# Altium integrated library Actel SX.IntLib: 224 symbols (part 13 of 17)
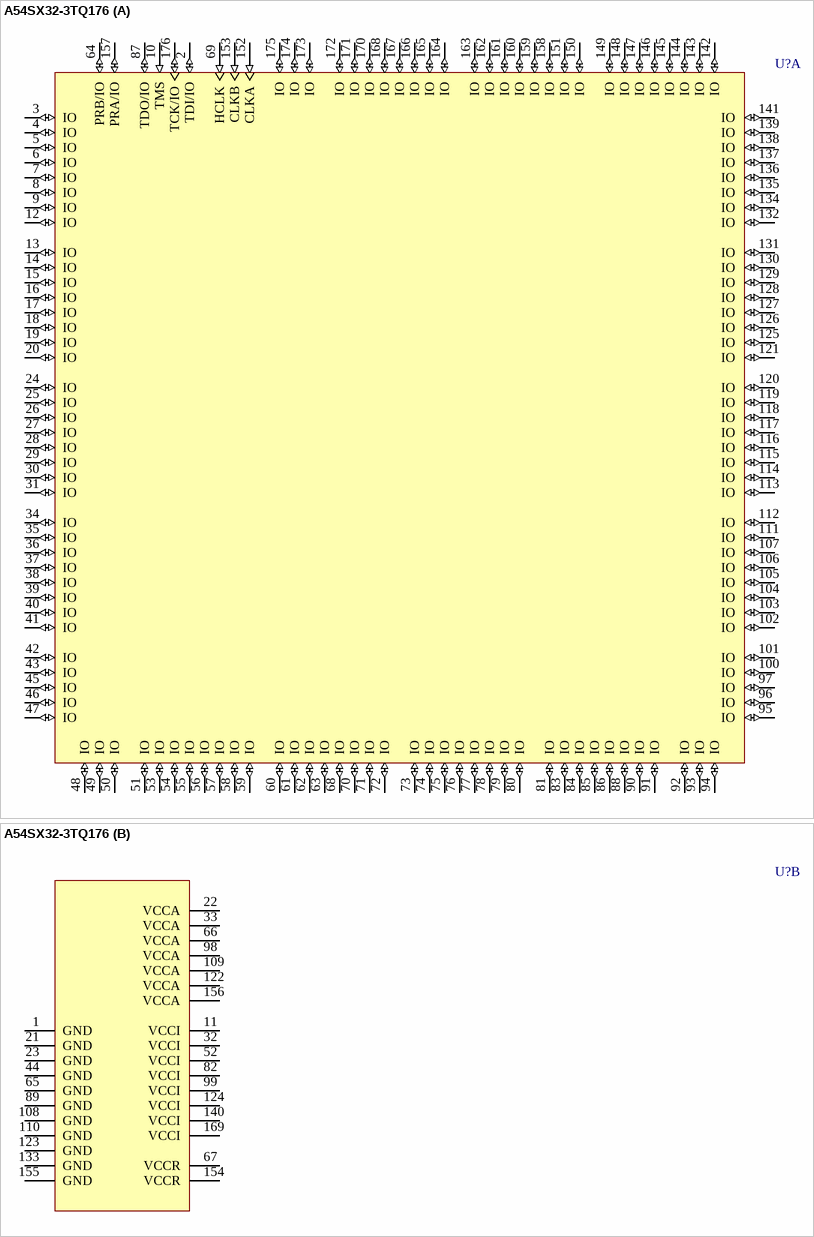
[diagram p179: symbol A54SX32-3TQ176]

## A54SX32-3TQ176
designator U?
54SX32 FPGA, 147 User IOs, 176-Pin TQFP, Speed Grade 3, Commercial Grade; Note: Unused I/O Pins are automatically tristated by the Designer Series software.; Published: 21-May-2003; LatestRevisionDate: 13-Apr-2006; LatestRevisionNote: IPC-7351 Footprint Added.; DatasheetVersion: ver3.1, Jun-2003; PackageVersion: v9.2, Apr-2006; PackageReference: TQ176; Publisher: Altium Limited; PackageDescription: 176-Pin Plastic Quad Flat Pack (TQ176); Code_JEDEC: MS-026-BCA; ComponentLink1Description: Manufacturer Link; ComponentLink1URL: http://www.actel.com/products/sxa/index.html; ComponentLink2Description: Datasheet; ComponentLink2URL: http://www.actel.com/documents/A54SXDS.pdf
footprint TQ176_N (Thin QFP, 176-Leads, Body 24x24mm, Pitch 0.5mm, IPC Medium Density)
footprint TQ176_L (Thin QFP, 176-Leads, Body 24x24mm, Pitch 0.5mm, IPC High Density)
footprint TQ176_M (Thin QFP, 176-Leads, Body 24x24mm, Pitch 0.5mm, IPC Low Density)
3D model A54SX32-TQ176 (176-Pin Plastic Quad Flat Pack (TQ176))
part A pins: 2 TDI/IO (io), 3 IO (io), 4 IO (io), 5 IO (io), 6 IO (io), 7 IO (io), 8 IO (io), 9 IO (io), 10 TMS (in), 12 IO (io), 13 IO (io), 14 IO (io), 15 IO (io), 16 IO (io), 17 IO (io), 18 IO (io), 19 IO (io), 20 IO (io), 24 IO (io), 25 IO (io), 26 IO (io), 27 IO (io), 28 IO (io), 29 IO (io), 30 IO (io), 31 IO (io), 34 IO (io), 35 IO (io), 36 IO (io), 37 IO (io), 38 IO (io), 39 IO (io), 40 IO (io), 41 IO (io), 42 IO (io), 43 IO (io), 45 IO (io), 46 IO (io), 47 IO (io), 48 IO (io), 49 IO (io), 50 IO (io), 51 IO (io), 53 IO (io), 54 IO (io), 55 IO (io), 56 IO (io), 57 IO (io), 58 IO (io), 59 IO (io), 60 IO (io), 61 IO (io), 62 IO (io), 63 IO (io), 64 PRB/IO (io), 68 IO (io), 69 HCLK (in), 70 IO (io), 71 IO (io), 72 IO (io), 73 IO (io), 74 IO (io), 75 IO (io), 76 IO (io), 77 IO (io), 78 IO (io), 79 IO (io), 80 IO (io), 81 IO (io), 83 IO (io), 84 IO (io), 85 IO (io), 86 IO (io), 87 TDO/IO (io), 88 IO (io), 90 IO (io), 91 IO (io), 92 IO (io), 93 IO (io), 94 IO (io), 95 IO (io), 96 IO (io), 97 IO (io), 100 IO (io), 101 IO (io), 102 IO (io), 103 IO (io), 104 IO (io), 105 IO (io), 106 IO (io), 107 IO (io), 111 IO (io), 112 IO (io), 113 IO (io), 114 IO (io), 115 IO (io), 116 IO (io), 117 IO (io), 118 IO (io), 119 IO (io), 120 IO (io), 121 IO (io), 125 IO (io), 126 IO (io), 127 IO (io), 128 IO (io), 129 IO (io), 130 IO (io), 131 IO (io), 132 IO (io), 134 IO (io), 135 IO (io), 136 IO (io), 137 IO (io), 138 IO (io), 139 IO (io), 141 IO (io), 142 IO (io), 143 IO (io), 144 IO (io), 145 IO (io), 146 IO (io), 147 IO (io), 148 IO (io), 149 IO (io), 150 IO (io), 151 IO (io), 152 CLKA (in), 153 CLKB (in), 157 PRA/IO (io), 158 IO (io), 159 IO (io), 160 IO (io), 161 IO (io), 162 IO (io), 163 IO (io), 164 IO (io), 165 IO (io), 166 IO (io), 167 IO (io), 168 IO (io), 170 IO (io), 171 IO (io), 172 IO (io), 173 IO (io), 174 IO (io), 175 IO (io), 176 TCK/IO (io)
part B pins: 1 GND (power), 11 VCCI (power), 21 GND (power), 22 VCCA (power), 23 GND (power), 32 VCCI (power), 33 VCCA (power), 44 GND (power), 52 VCCI (power), 65 GND (power), 66 VCCA (power), 67 VCCR (power), 82 VCCI (power), 89 GND (power), 98 VCCA (power), 99 VCCI (power), 108 GND (power), 109 VCCA (power), 110 GND (power), 122 VCCA (power), 123 GND (power), 124 VCCI (power), 133 GND (power), 140 VCCI (power), 154 VCCR (power), 155 GND (power), 156 VCCA (power), 169 VCCI (power)

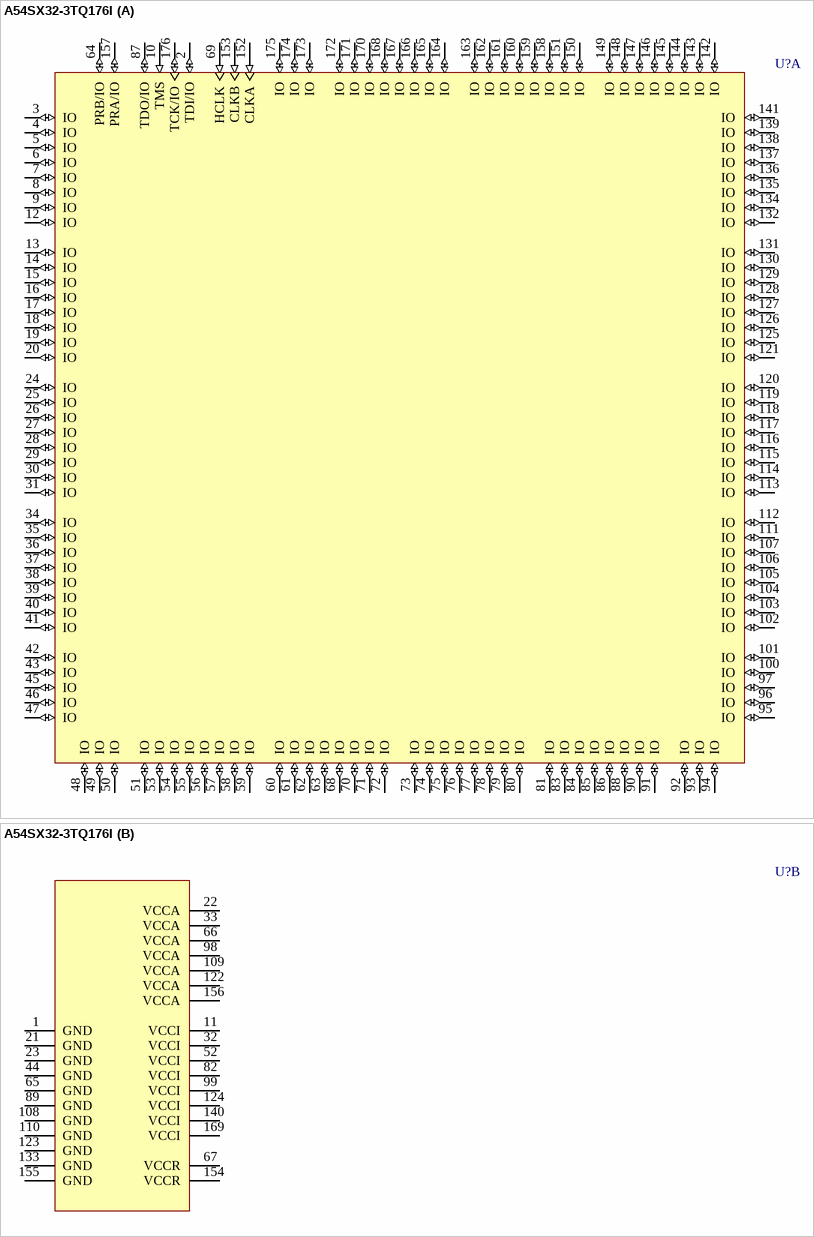
[diagram p120: symbol A54SX32-3TQ176I]

## A54SX32-3TQ176I
designator U?
54SX32 FPGA, 147 User IOs, 176-Pin TQFP, Speed Grade 3, Industrial Grade; Note: Unused I/O Pins are automatically tristated by the Designer Series software.; Published: 21-May-2003; LatestRevisionDate: 13-Apr-2006; LatestRevisionNote: IPC-7351 Footprint Added.; DatasheetVersion: ver3.1, Jun-2003; PackageVersion: v9.2, Apr-2006; PackageReference: TQ176; Publisher: Altium Limited; PackageDescription: 176-Pin Plastic Quad Flat Pack (TQ176); Code_JEDEC: MS-026-BCA; ComponentLink1Description: Manufacturer Link; ComponentLink1URL: http://www.actel.com/products/sxa/index.html; ComponentLink2Description: Datasheet; ComponentLink2URL: http://www.actel.com/documents/A54SXDS.pdf
footprint TQ176_N (Thin QFP, 176-Leads, Body 24x24mm, Pitch 0.5mm, IPC Medium Density)
footprint TQ176_L (Thin QFP, 176-Leads, Body 24x24mm, Pitch 0.5mm, IPC High Density)
footprint TQ176_M (Thin QFP, 176-Leads, Body 24x24mm, Pitch 0.5mm, IPC Low Density)
3D model A54SX32-TQ176 (176-Pin Plastic Quad Flat Pack (TQ176))
part A pins: 2 TDI/IO (io), 3 IO (io), 4 IO (io), 5 IO (io), 6 IO (io), 7 IO (io), 8 IO (io), 9 IO (io), 10 TMS (in), 12 IO (io), 13 IO (io), 14 IO (io), 15 IO (io), 16 IO (io), 17 IO (io), 18 IO (io), 19 IO (io), 20 IO (io), 24 IO (io), 25 IO (io), 26 IO (io), 27 IO (io), 28 IO (io), 29 IO (io), 30 IO (io), 31 IO (io), 34 IO (io), 35 IO (io), 36 IO (io), 37 IO (io), 38 IO (io), 39 IO (io), 40 IO (io), 41 IO (io), 42 IO (io), 43 IO (io), 45 IO (io), 46 IO (io), 47 IO (io), 48 IO (io), 49 IO (io), 50 IO (io), 51 IO (io), 53 IO (io), 54 IO (io), 55 IO (io), 56 IO (io), 57 IO (io), 58 IO (io), 59 IO (io), 60 IO (io), 61 IO (io), 62 IO (io), 63 IO (io), 64 PRB/IO (io), 68 IO (io), 69 HCLK (in), 70 IO (io), 71 IO (io), 72 IO (io), 73 IO (io), 74 IO (io), 75 IO (io), 76 IO (io), 77 IO (io), 78 IO (io), 79 IO (io), 80 IO (io), 81 IO (io), 83 IO (io), 84 IO (io), 85 IO (io), 86 IO (io), 87 TDO/IO (io), 88 IO (io), 90 IO (io), 91 IO (io), 92 IO (io), 93 IO (io), 94 IO (io), 95 IO (io), 96 IO (io), 97 IO (io), 100 IO (io), 101 IO (io), 102 IO (io), 103 IO (io), 104 IO (io), 105 IO (io), 106 IO (io), 107 IO (io), 111 IO (io), 112 IO (io), 113 IO (io), 114 IO (io), 115 IO (io), 116 IO (io), 117 IO (io), 118 IO (io), 119 IO (io), 120 IO (io), 121 IO (io), 125 IO (io), 126 IO (io), 127 IO (io), 128 IO (io), 129 IO (io), 130 IO (io), 131 IO (io), 132 IO (io), 134 IO (io), 135 IO (io), 136 IO (io), 137 IO (io), 138 IO (io), 139 IO (io), 141 IO (io), 142 IO (io), 143 IO (io), 144 IO (io), 145 IO (io), 146 IO (io), 147 IO (io), 148 IO (io), 149 IO (io), 150 IO (io), 151 IO (io), 152 CLKA (in), 153 CLKB (in), 157 PRA/IO (io), 158 IO (io), 159 IO (io), 160 IO (io), 161 IO (io), 162 IO (io), 163 IO (io), 164 IO (io), 165 IO (io), 166 IO (io), 167 IO (io), 168 IO (io), 170 IO (io), 171 IO (io), 172 IO (io), 173 IO (io), 174 IO (io), 175 IO (io), 176 TCK/IO (io)
part B pins: 1 GND (power), 11 VCCI (power), 21 GND (power), 22 VCCA (power), 23 GND (power), 32 VCCI (power), 33 VCCA (power), 44 GND (power), 52 VCCI (power), 65 GND (power), 66 VCCA (power), 67 VCCR (power), 82 VCCI (power), 89 GND (power), 98 VCCA (power), 99 VCCI (power), 108 GND (power), 109 VCCA (power), 110 GND (power), 122 VCCA (power), 123 GND (power), 124 VCCI (power), 133 GND (power), 140 VCCI (power), 154 VCCR (power), 155 GND (power), 156 VCCA (power), 169 VCCI (power)

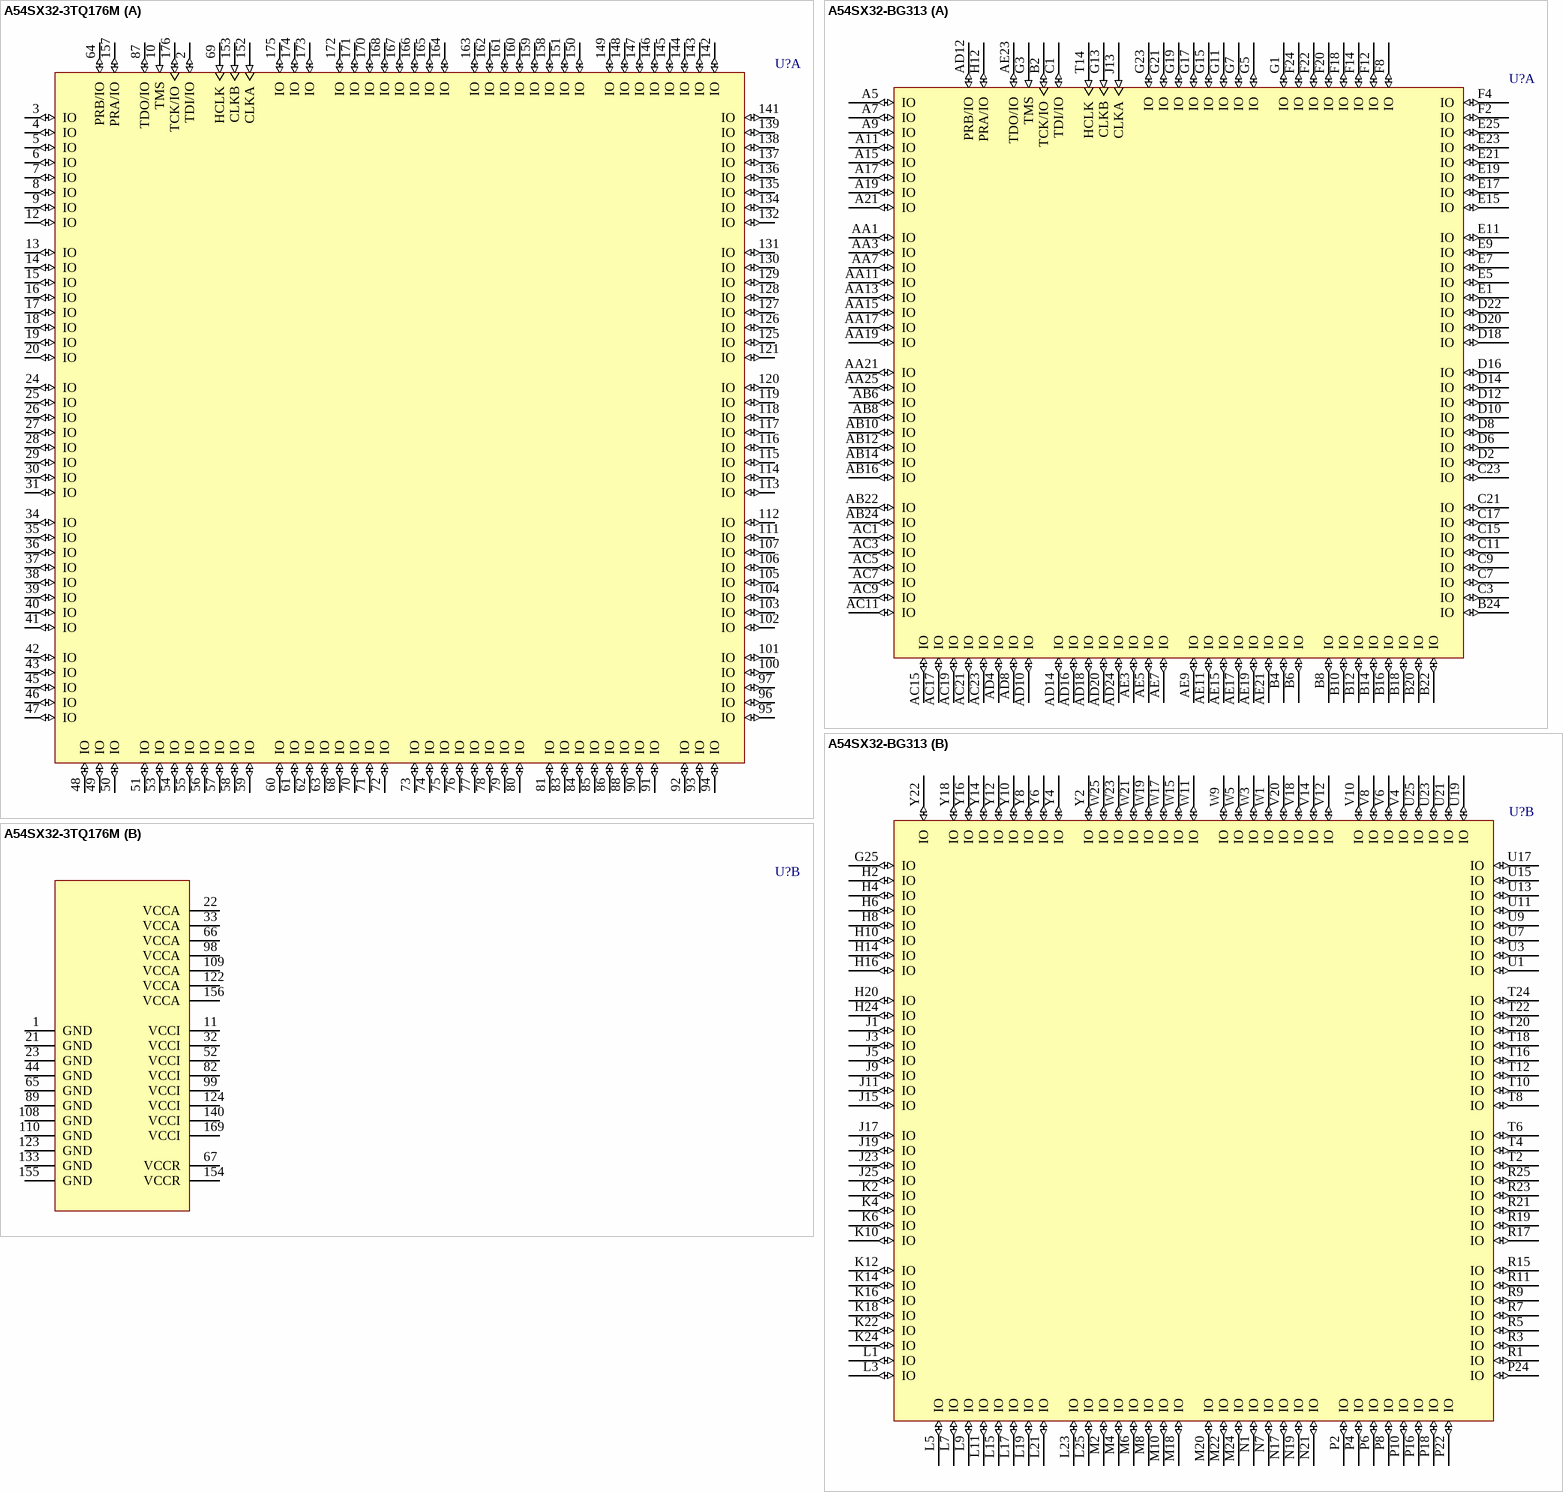
[diagram p121: symbols A54SX32-3TQ176M to A54SX32-BG313]

## A54SX32-3TQ176M
designator U?
54SX32 FPGA, 147 User IOs, 176-Pin TQFP, Speed Grade 3, Commercial Grade; Note: Unused I/O Pins are automatically tristated by the Designer Series software.; Published: 21-May-2003; LatestRevisionDate: 13-Apr-2006; LatestRevisionNote: IPC-7351 Footprint Added.; DatasheetVersion: ver3.1, Jun-2003; PackageVersion: v9.2, Apr-2006; PackageReference: TQ176; Publisher: Altium Limited; PackageDescription: 176-Pin Plastic Quad Flat Pack (TQ176); Code_JEDEC: MS-026-BCA; ComponentLink1Description: Manufacturer Link; ComponentLink1URL: http://www.actel.com/products/sxa/index.html; ComponentLink2Description: Datasheet; ComponentLink2URL: http://www.actel.com/documents/A54SXDS.pdf
footprint TQ176_N (Thin QFP, 176-Leads, Body 24x24mm, Pitch 0.5mm, IPC Medium Density)
footprint TQ176_L (Thin QFP, 176-Leads, Body 24x24mm, Pitch 0.5mm, IPC High Density)
footprint TQ176_M (Thin QFP, 176-Leads, Body 24x24mm, Pitch 0.5mm, IPC Low Density)
3D model A54SX32-TQ176 (176-Pin Plastic Quad Flat Pack (TQ176))
part A pins: 2 TDI/IO (io), 3 IO (io), 4 IO (io), 5 IO (io), 6 IO (io), 7 IO (io), 8 IO (io), 9 IO (io), 10 TMS (in), 12 IO (io), 13 IO (io), 14 IO (io), 15 IO (io), 16 IO (io), 17 IO (io), 18 IO (io), 19 IO (io), 20 IO (io), 24 IO (io), 25 IO (io), 26 IO (io), 27 IO (io), 28 IO (io), 29 IO (io), 30 IO (io), 31 IO (io), 34 IO (io), 35 IO (io), 36 IO (io), 37 IO (io), 38 IO (io), 39 IO (io), 40 IO (io), 41 IO (io), 42 IO (io), 43 IO (io), 45 IO (io), 46 IO (io), 47 IO (io), 48 IO (io), 49 IO (io), 50 IO (io), 51 IO (io), 53 IO (io), 54 IO (io), 55 IO (io), 56 IO (io), 57 IO (io), 58 IO (io), 59 IO (io), 60 IO (io), 61 IO (io), 62 IO (io), 63 IO (io), 64 PRB/IO (io), 68 IO (io), 69 HCLK (in), 70 IO (io), 71 IO (io), 72 IO (io), 73 IO (io), 74 IO (io), 75 IO (io), 76 IO (io), 77 IO (io), 78 IO (io), 79 IO (io), 80 IO (io), 81 IO (io), 83 IO (io), 84 IO (io), 85 IO (io), 86 IO (io), 87 TDO/IO (io), 88 IO (io), 90 IO (io), 91 IO (io), 92 IO (io), 93 IO (io), 94 IO (io), 95 IO (io), 96 IO (io), 97 IO (io), 100 IO (io), 101 IO (io), 102 IO (io), 103 IO (io), 104 IO (io), 105 IO (io), 106 IO (io), 107 IO (io), 111 IO (io), 112 IO (io), 113 IO (io), 114 IO (io), 115 IO (io), 116 IO (io), 117 IO (io), 118 IO (io), 119 IO (io), 120 IO (io), 121 IO (io), 125 IO (io), 126 IO (io), 127 IO (io), 128 IO (io), 129 IO (io), 130 IO (io), 131 IO (io), 132 IO (io), 134 IO (io), 135 IO (io), 136 IO (io), 137 IO (io), 138 IO (io), 139 IO (io), 141 IO (io), 142 IO (io), 143 IO (io), 144 IO (io), 145 IO (io), 146 IO (io), 147 IO (io), 148 IO (io), 149 IO (io), 150 IO (io), 151 IO (io), 152 CLKA (in), 153 CLKB (in), 157 PRA/IO (io), 158 IO (io), 159 IO (io), 160 IO (io), 161 IO (io), 162 IO (io), 163 IO (io), 164 IO (io), 165 IO (io), 166 IO (io), 167 IO (io), 168 IO (io), 170 IO (io), 171 IO (io), 172 IO (io), 173 IO (io), 174 IO (io), 175 IO (io), 176 TCK/IO (io)
part B pins: 1 GND (power), 11 VCCI (power), 21 GND (power), 22 VCCA (power), 23 GND (power), 32 VCCI (power), 33 VCCA (power), 44 GND (power), 52 VCCI (power), 65 GND (power), 66 VCCA (power), 67 VCCR (power), 82 VCCI (power), 89 GND (power), 98 VCCA (power), 99 VCCI (power), 108 GND (power), 109 VCCA (power), 110 GND (power), 122 VCCA (power), 123 GND (power), 124 VCCI (power), 133 GND (power), 140 VCCI (power), 154 VCCR (power), 155 GND (power), 156 VCCA (power), 169 VCCI (power)

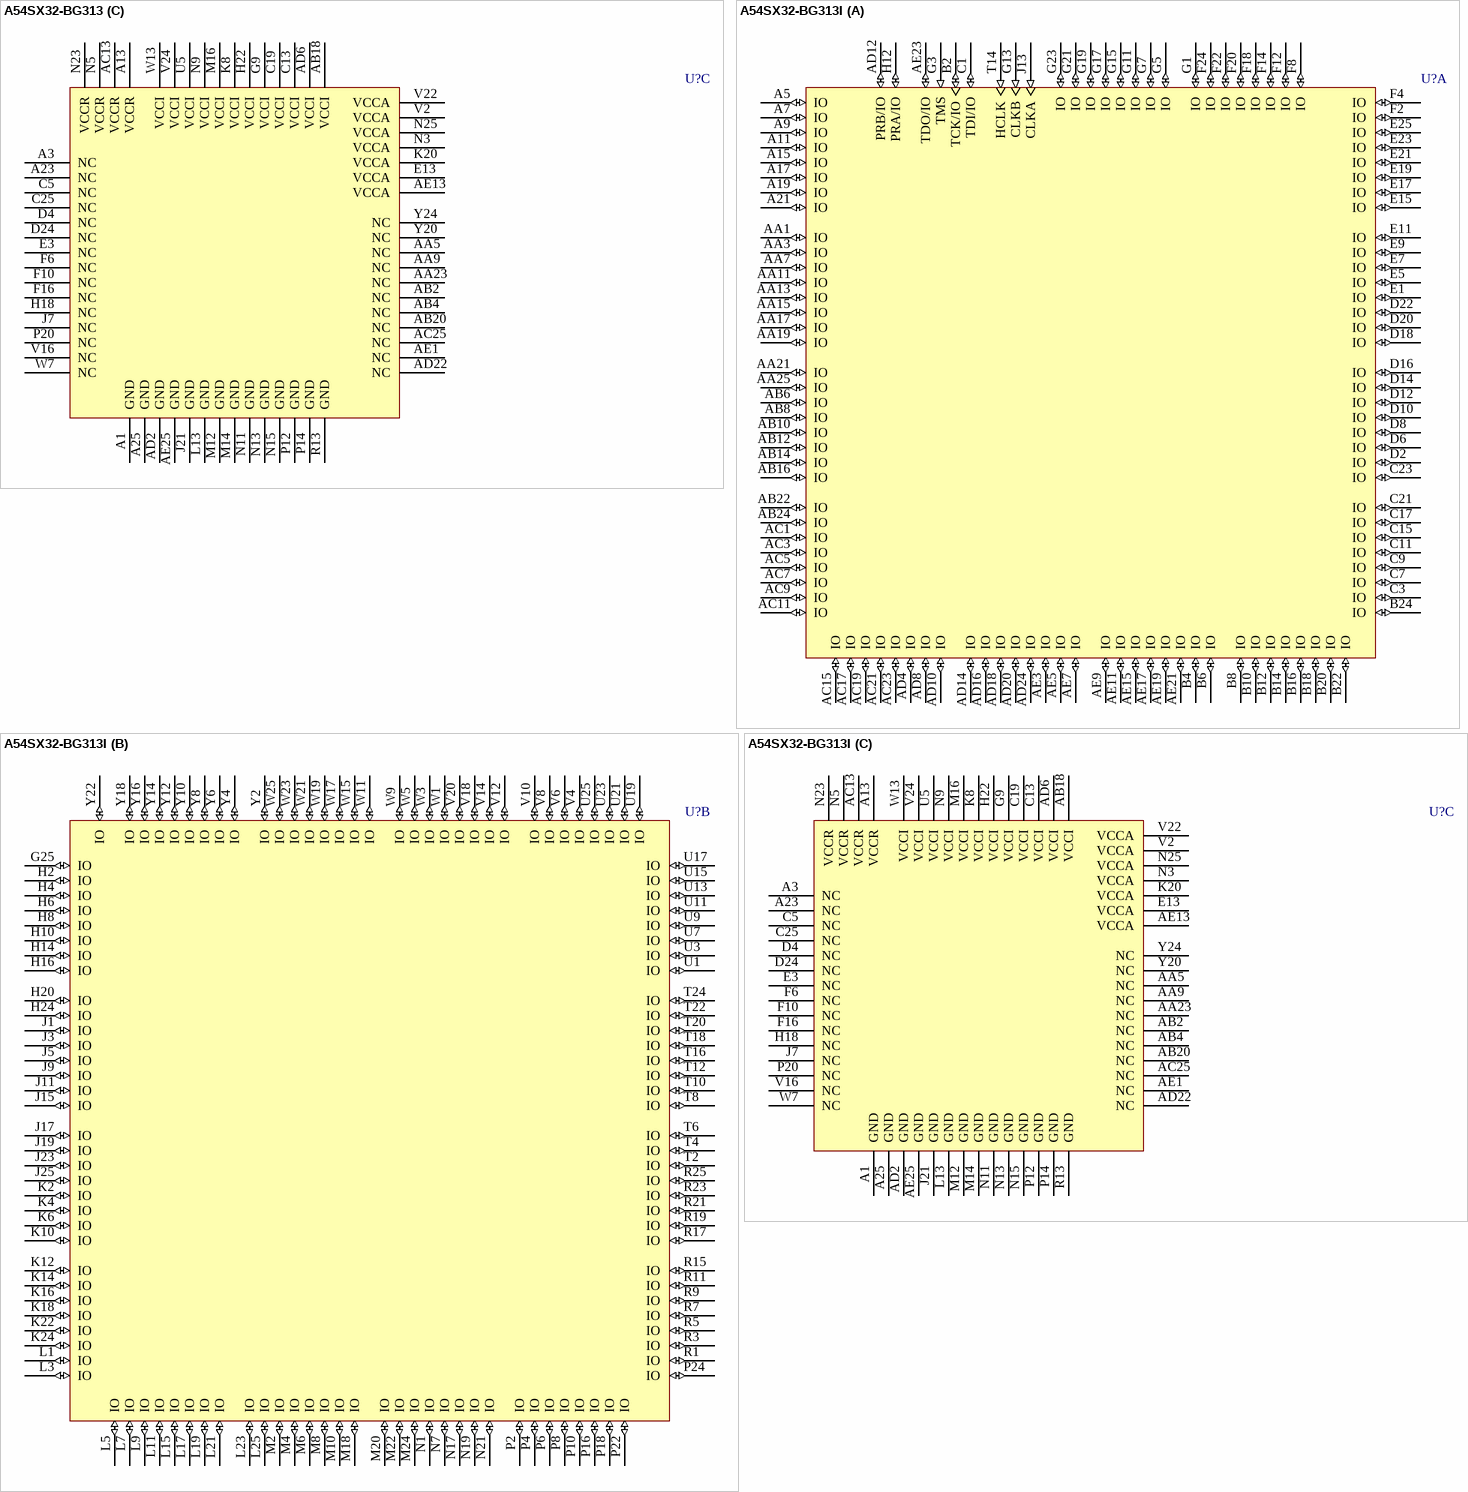
[diagram p122: symbols A54SX32-BG313 to A54SX32-BG313I]

## A54SX32-BG313
designator U?
54SX32 FPGA, 249 User IOs, 313-Pin PBGA, Speed Grade 1, Commercial Grade; Note: Unused I/O Pins are automatically tristated by the Designer Series software.; Published: 21-May-2003; LatestRevisionDate: 13-Apr-2006; LatestRevisionNote: IPC-7351 Footprint Added.; DatasheetVersion: ver3.1, Jun-2003; PackageVersion: v9.2, Apr-2006; PackageReference: BG313; Publisher: Altium Limited; PackageDescription: 313-Ball Staggered Plastic Ball Grid Array (BG313); Code_JEDEC: MS-034; ComponentLink1Description: Manufacturer Link; ComponentLink1URL: http://www.actel.com/products/sxa/index.html; ComponentLink2Description: Datasheet; ComponentLink2URL: http://www.actel.com/documents/A54SXDS.pdf
footprint BG313 (BGA, Staggered, 313-Leads, Body 35x35mm, Pitch 1.27mm)
3D model A54SX32-BG313 (313-Ball Staggered Plastic Ball Grid Array (BG313))
part A pins: A5 IO (io), A7 IO (io), A9 IO (io), A11 IO (io), A15 IO (io), A17 IO (io), A19 IO (io), A21 IO (io), AA1 IO (io), AA3 IO (io), AA7 IO (io), AA11 IO (io), AA13 IO (io), AA15 IO (io), AA17 IO (io), AA19 IO (io), AA21 IO (io), AA25 IO (io), AB6 IO (io), AB8 IO (io), AB10 IO (io), AB12 IO (io), AB14 IO (io), AB16 IO (io), AB22 IO (io), AB24 IO (io), AC1 IO (io), AC3 IO (io), AC5 IO (io), AC7 IO (io), AC9 IO (io), AC11 IO (io), AC15 IO (io), AC17 IO (io), AC19 IO (io), AC21 IO (io), AC23 IO (io), AD4 IO (io), AD8 IO (io), AD10 IO (io), AD12 PRB/IO (io), AD14 IO (io), AD16 IO (io), AD18 IO (io), AD20 IO (io), AD24 IO (io), AE3 IO (io), AE5 IO (io), AE7 IO (io), AE9 IO (io), AE11 IO (io), AE15 IO (io), AE17 IO (io), AE19 IO (io), AE21 IO (io), AE23 TDO/IO (io), B2 TCK/IO (io), B4 IO (io), B6 IO (io), B8 IO (io), B10 IO (io), B12 IO (io), B14 IO (io), B16 IO (io), B18 IO (io), B20 IO (io), B22 IO (io), B24 IO (io), C1 TDI/IO (io), C3 IO (io), C7 IO (io), C9 IO (io), C11 IO (io), C15 IO (io), C17 IO (io), C21 IO (io), C23 IO (io), D2 IO (io), D6 IO (io), D8 IO (io), D10 IO (io), D12 IO (io), D14 IO (io), D16 IO (io), D18 IO (io), D20 IO (io), D22 IO (io), E1 IO (io), E5 IO (io), E7 IO (io), E9 IO (io), E11 IO (io), E15 IO (io), E17 IO (io), E19 IO (io), E21 IO (io), E23 IO (io), E25 IO (io), F2 IO (io), F4 IO (io), F8 IO (io), F12 IO (io), F14 IO (io), F18 IO (io), F20 IO (io), F22 IO (io), F24 IO (io), G1 IO (io), G3 TMS (in), G5 IO (io), G7 IO (io), G11 IO (io), G13 CLKB (in), G15 IO (io), G17 IO (io), G19 IO (io), G21 IO (io), G23 IO (io), H12 PRA/IO (io), J13 CLKA (in), T14 HCLK (in)
part B pins: G25 IO (io), H2 IO (io), H4 IO (io), H6 IO (io), H8 IO (io), H10 IO (io), H14 IO (io), H16 IO (io), H20 IO (io), H24 IO (io), J1 IO (io), J3 IO (io), J5 IO (io), J9 IO (io), J11 IO (io), J15 IO (io), J17 IO (io), J19 IO (io), J23 IO (io), J25 IO (io), K2 IO (io), K4 IO (io), K6 IO (io), K10 IO (io), K12 IO (io), K14 IO (io), K16 IO (io), K18 IO (io), K22 IO (io), K24 IO (io), L1 IO (io), L3 IO (io), L5 IO (io), L7 IO (io), L9 IO (io), L11 IO (io), L15 IO (io), L17 IO (io), L19 IO (io), L21 IO (io), L23 IO (io), L25 IO (io), M2 IO (io), M4 IO (io), M6 IO (io), M8 IO (io), M10 IO (io), M18 IO (io), M20 IO (io), M22 IO (io), M24 IO (io), N1 IO (io), N7 IO (io), N17 IO (io), N19 IO (io), N21 IO (io), P2 IO (io), P4 IO (io), P6 IO (io), P8 IO (io), P10 IO (io), P16 IO (io), P18 IO (io), P22 IO (io), P24 IO (io), R1 IO (io), R3 IO (io), R5 IO (io), R7 IO (io), R9 IO (io), R11 IO (io), R15 IO (io), R17 IO (io), R19 IO (io), R21 IO (io), R23 IO (io), R25 IO (io), T2 IO (io), T4 IO (io), T6 IO (io), T8 IO (io), T10 IO (io), T12 IO (io), T16 IO (io), T18 IO (io), T20 IO (io), T22 IO (io), T24 IO (io), U1 IO (io), U3 IO (io), U7 IO (io), U9 IO (io), U11 IO (io), U13 IO (io), U15 IO (io), U17 IO (io), U19 IO (io), U21 IO (io), U23 IO (io), U25 IO (io), V4 IO (io), V6 IO (io), V8 IO (io), V10 IO (io), V12 IO (io), V14 IO (io), V18 IO (io), V20 IO (io), W1 IO (io), W3 IO (io), W5 IO (io), W9 IO (io), W11 IO (io), W15 IO (io), W17 IO (io), W19 IO (io), W21 IO (io), W23 IO (io), W25 IO (io), Y2 IO (io), Y4 IO (io), Y6 IO (io), Y8 IO (io), Y10 IO (io), Y12 IO (io), Y14 IO (io), Y16 IO (io), Y18 IO (io), Y22 IO (io)
part C pins: A1 GND (power), A3 NC, A13 VCCR (power), A23 NC, A25 GND (power), AA5 NC, AA9 NC, AA23 NC, AB2 NC, AB4 NC, AB18 VCCI (power), AB20 NC, AC13 VCCR (power), AC25 NC, AD2 GND (power), AD6 VCCI (power), AD22 NC, AE1 NC, AE13 VCCA (power), AE25 GND (power), C5 NC, C13 VCCI (power), C19 VCCI (power), C25 NC, D4 NC, D24 NC, E3 NC, E13 VCCA (power), F6 NC, F10 NC, F16 NC, G9 VCCI (power), H18 NC, H22 VCCI (power), J7 NC, J21 GND (power), K8 VCCI (power), K20 VCCA (power), L13 GND (power), M12 GND (power), M14 GND (power), M16 VCCI (power), N3 VCCA (power), N5 VCCR (power), N9 VCCI (power), N11 GND (power), N13 GND (power), N15 GND (power), N23 VCCR (power), N25 VCCA (power), P12 GND (power), P14 GND (power), P20 NC, R13 GND (power), U5 VCCI (power), V2 VCCA (power), V16 NC, V22 VCCA (power), V24 VCCI (power), W7 NC, W13 VCCI (power), Y20 NC, Y24 NC

## A54SX32-BG313I
designator U?
54SX32 FPGA, 249 User IOs, 313-Pin PBGA, Speed Grade 1, Industrial Grade; Note: Unused I/O Pins are automatically tristated by the Designer Series software.; Published: 21-May-2003; LatestRevisionDate: 13-Apr-2006; LatestRevisionNote: IPC-7351 Footprint Added.; DatasheetVersion: ver3.1, Jun-2003; PackageVersion: v9.2, Apr-2006; PackageReference: BG313; Publisher: Altium Limited; PackageDescription: 313-Ball Staggered Plastic Ball Grid Array (BG313); Code_JEDEC: MS-034; ComponentLink1Description: Manufacturer Link; ComponentLink1URL: http://www.actel.com/products/sxa/index.html; ComponentLink2Description: Datasheet; ComponentLink2URL: http://www.actel.com/documents/A54SXDS.pdf
footprint BG313 (BGA, Staggered, 313-Leads, Body 35x35mm, Pitch 1.27mm)
3D model A54SX32-BG313 (313-Ball Staggered Plastic Ball Grid Array (BG313))
part A pins: A5 IO (io), A7 IO (io), A9 IO (io), A11 IO (io), A15 IO (io), A17 IO (io), A19 IO (io), A21 IO (io), AA1 IO (io), AA3 IO (io), AA7 IO (io), AA11 IO (io), AA13 IO (io), AA15 IO (io), AA17 IO (io), AA19 IO (io), AA21 IO (io), AA25 IO (io), AB6 IO (io), AB8 IO (io), AB10 IO (io), AB12 IO (io), AB14 IO (io), AB16 IO (io), AB22 IO (io), AB24 IO (io), AC1 IO (io), AC3 IO (io), AC5 IO (io), AC7 IO (io), AC9 IO (io), AC11 IO (io), AC15 IO (io), AC17 IO (io), AC19 IO (io), AC21 IO (io), AC23 IO (io), AD4 IO (io), AD8 IO (io), AD10 IO (io), AD12 PRB/IO (io), AD14 IO (io), AD16 IO (io), AD18 IO (io), AD20 IO (io), AD24 IO (io), AE3 IO (io), AE5 IO (io), AE7 IO (io), AE9 IO (io), AE11 IO (io), AE15 IO (io), AE17 IO (io), AE19 IO (io), AE21 IO (io), AE23 TDO/IO (io), B2 TCK/IO (io), B4 IO (io), B6 IO (io), B8 IO (io), B10 IO (io), B12 IO (io), B14 IO (io), B16 IO (io), B18 IO (io), B20 IO (io), B22 IO (io), B24 IO (io), C1 TDI/IO (io), C3 IO (io), C7 IO (io), C9 IO (io), C11 IO (io), C15 IO (io), C17 IO (io), C21 IO (io), C23 IO (io), D2 IO (io), D6 IO (io), D8 IO (io), D10 IO (io), D12 IO (io), D14 IO (io), D16 IO (io), D18 IO (io), D20 IO (io), D22 IO (io), E1 IO (io), E5 IO (io), E7 IO (io), E9 IO (io), E11 IO (io), E15 IO (io), E17 IO (io), E19 IO (io), E21 IO (io), E23 IO (io), E25 IO (io), F2 IO (io), F4 IO (io), F8 IO (io), F12 IO (io), F14 IO (io), F18 IO (io), F20 IO (io), F22 IO (io), F24 IO (io), G1 IO (io), G3 TMS (in), G5 IO (io), G7 IO (io), G11 IO (io), G13 CLKB (in), G15 IO (io), G17 IO (io), G19 IO (io), G21 IO (io), G23 IO (io), H12 PRA/IO (io), J13 CLKA (in), T14 HCLK (in)
part B pins: G25 IO (io), H2 IO (io), H4 IO (io), H6 IO (io), H8 IO (io), H10 IO (io), H14 IO (io), H16 IO (io), H20 IO (io), H24 IO (io), J1 IO (io), J3 IO (io), J5 IO (io), J9 IO (io), J11 IO (io), J15 IO (io), J17 IO (io), J19 IO (io), J23 IO (io), J25 IO (io), K2 IO (io), K4 IO (io), K6 IO (io), K10 IO (io), K12 IO (io), K14 IO (io), K16 IO (io), K18 IO (io), K22 IO (io), K24 IO (io), L1 IO (io), L3 IO (io), L5 IO (io), L7 IO (io), L9 IO (io), L11 IO (io), L15 IO (io), L17 IO (io), L19 IO (io), L21 IO (io), L23 IO (io), L25 IO (io), M2 IO (io), M4 IO (io), M6 IO (io), M8 IO (io), M10 IO (io), M18 IO (io), M20 IO (io), M22 IO (io), M24 IO (io), N1 IO (io), N7 IO (io), N17 IO (io), N19 IO (io), N21 IO (io), P2 IO (io), P4 IO (io), P6 IO (io), P8 IO (io), P10 IO (io), P16 IO (io), P18 IO (io), P22 IO (io), P24 IO (io), R1 IO (io), R3 IO (io), R5 IO (io), R7 IO (io), R9 IO (io), R11 IO (io), R15 IO (io), R17 IO (io), R19 IO (io), R21 IO (io), R23 IO (io), R25 IO (io), T2 IO (io), T4 IO (io), T6 IO (io), T8 IO (io), T10 IO (io), T12 IO (io), T16 IO (io), T18 IO (io), T20 IO (io), T22 IO (io), T24 IO (io), U1 IO (io), U3 IO (io), U7 IO (io), U9 IO (io), U11 IO (io), U13 IO (io), U15 IO (io), U17 IO (io), U19 IO (io), U21 IO (io), U23 IO (io), U25 IO (io), V4 IO (io), V6 IO (io), V8 IO (io), V10 IO (io), V12 IO (io), V14 IO (io), V18 IO (io), V20 IO (io), W1 IO (io), W3 IO (io), W5 IO (io), W9 IO (io), W11 IO (io), W15 IO (io), W17 IO (io), W19 IO (io), W21 IO (io), W23 IO (io), W25 IO (io), Y2 IO (io), Y4 IO (io), Y6 IO (io), Y8 IO (io), Y10 IO (io), Y12 IO (io), Y14 IO (io), Y16 IO (io), Y18 IO (io), Y22 IO (io)
part C pins: A1 GND (power), A3 NC, A13 VCCR (power), A23 NC, A25 GND (power), AA5 NC, AA9 NC, AA23 NC, AB2 NC, AB4 NC, AB18 VCCI (power), AB20 NC, AC13 VCCR (power), AC25 NC, AD2 GND (power), AD6 VCCI (power), AD22 NC, AE1 NC, AE13 VCCA (power), AE25 GND (power), C5 NC, C13 VCCI (power), C19 VCCI (power), C25 NC, D4 NC, D24 NC, E3 NC, E13 VCCA (power), F6 NC, F10 NC, F16 NC, G9 VCCI (power), H18 NC, H22 VCCI (power), J7 NC, J21 GND (power), K8 VCCI (power), K20 VCCA (power), L13 GND (power), M12 GND (power), M14 GND (power), M16 VCCI (power), N3 VCCA (power), N5 VCCR (power), N9 VCCI (power), N11 GND (power), N13 GND (power), N15 GND (power), N23 VCCR (power), N25 VCCA (power), P12 GND (power), P14 GND (power), P20 NC, R13 GND (power), U5 VCCI (power), V2 VCCA (power), V16 NC, V22 VCCA (power), V24 VCCI (power), W7 NC, W13 VCCI (power), Y20 NC, Y24 NC

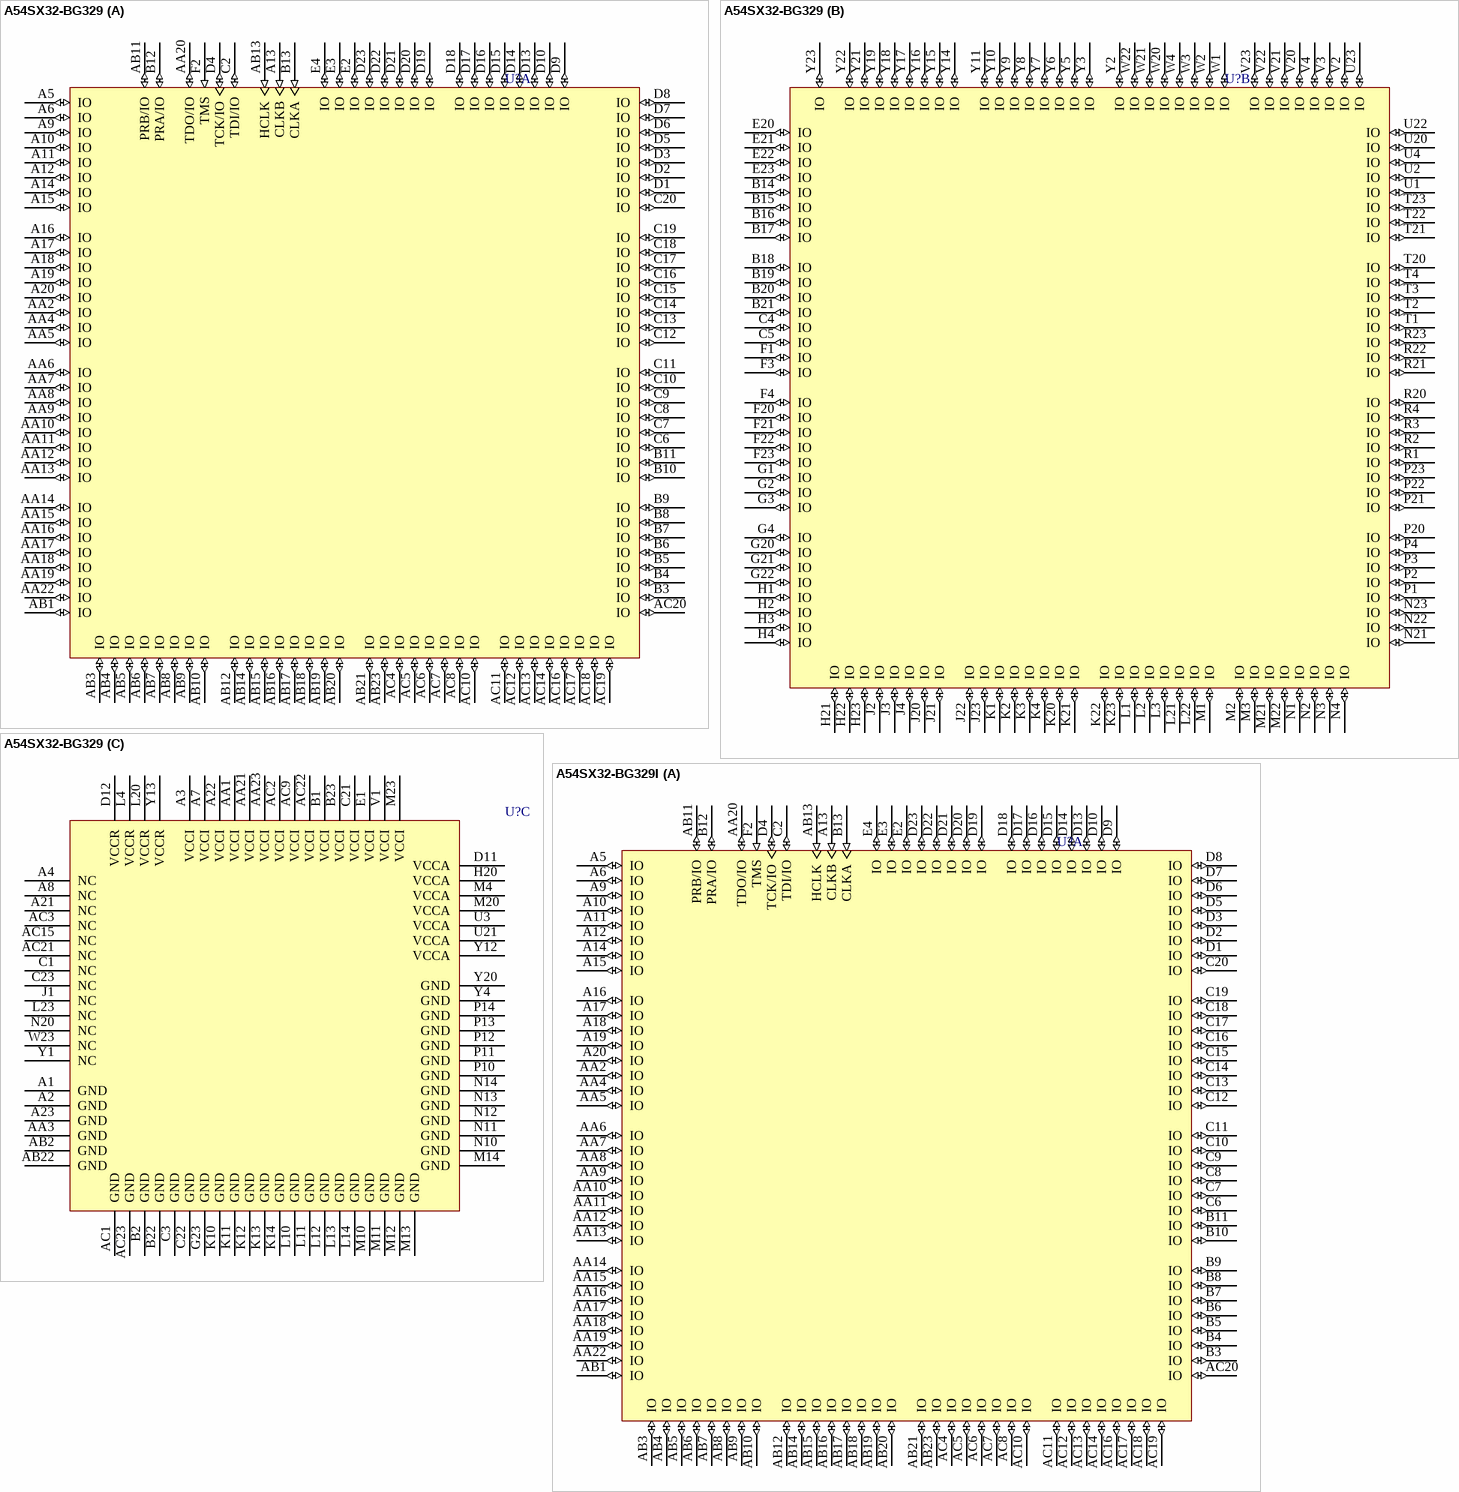
[diagram p123: symbols A54SX32-BG329 to A54SX32-BG329I]

## A54SX32-BG329
designator U?
54SX32 FPGA, 249 User IOs, 329-Pin PBGA, Speed Grade 1, Commercial Grade; Note: Unused I/O Pins are automatically tristated by the Designer Series software.; Published: 21-May-2003; LatestRevisionDate: 13-Apr-2006; LatestRevisionNote: IPC-7351 Footprint Added.; DatasheetVersion: ver3.1, Jun-2003; PackageVersion: v9.2, Apr-2006; PackageReference: BG329; Publisher: Altium Limited; PackageDescription: 329-Ball Plastic Ball Grid Array (BG329); Code_JEDEC: MS-034-BAN-2; ComponentLink1Description: Manufacturer Link; ComponentLink1URL: http://www.actel.com/products/sxa/index.html; ComponentLink2Description: Datasheet; ComponentLink2URL: http://www.actel.com/documents/A54SXDS.pdf
footprint BG329 (BGA, 329-Leads, Body 31x31mm, Pitch 1.27mm)
3D model A54SX32-BG329 (329-Ball Plastic Ball Grid Array (BG329))
part A pins: A5 IO (io), A6 IO (io), A9 IO (io), A10 IO (io), A11 IO (io), A12 IO (io), A13 CLKB (in), A14 IO (io), A15 IO (io), A16 IO (io), A17 IO (io), A18 IO (io), A19 IO (io), A20 IO (io), AA2 IO (io), AA4 IO (io), AA5 IO (io), AA6 IO (io), AA7 IO (io), AA8 IO (io), AA9 IO (io), AA10 IO (io), AA11 IO (io), AA12 IO (io), AA13 IO (io), AA14 IO (io), AA15 IO (io), AA16 IO (io), AA17 IO (io), AA18 IO (io), AA19 IO (io), AA20 TDO/IO (io), AA22 IO (io), AB1 IO (io), AB3 IO (io), AB4 IO (io), AB5 IO (io), AB6 IO (io), AB7 IO (io), AB8 IO (io), AB9 IO (io), AB10 IO (io), AB11 PRB/IO (io), AB12 IO (io), AB13 HCLK (in), AB14 IO (io), AB15 IO (io), AB16 IO (io), AB17 IO (io), AB18 IO (io), AB19 IO (io), AB20 IO (io), AB21 IO (io), AB23 IO (io), AC4 IO (io), AC5 IO (io), AC6 IO (io), AC7 IO (io), AC8 IO (io), AC10 IO (io), AC11 IO (io), AC12 IO (io), AC13 IO (io), AC14 IO (io), AC16 IO (io), AC17 IO (io), AC18 IO (io), AC19 IO (io), AC20 IO (io), B3 IO (io), B4 IO (io), B5 IO (io), B6 IO (io), B7 IO (io), B8 IO (io), B9 IO (io), B10 IO (io), B11 IO (io), B12 PRA/IO (io), B13 CLKA (in), C2 TDI/IO (io), C6 IO (io), C7 IO (io), C8 IO (io), C9 IO (io), C10 IO (io), C11 IO (io), C12 IO (io), C13 IO (io), C14 IO (io), C15 IO (io), C16 IO (io), C17 IO (io), C18 IO (io), C19 IO (io), C20 IO (io), D1 IO (io), D2 IO (io), D3 IO (io), D4 TCK/IO (io), D5 IO (io), D6 IO (io), D7 IO (io), D8 IO (io), D9 IO (io), D10 IO (io), D13 IO (io), D14 IO (io), D15 IO (io), D16 IO (io), D17 IO (io), D18 IO (io), D19 IO (io), D20 IO (io), D21 IO (io), D22 IO (io), D23 IO (io), E2 IO (io), E3 IO (io), E4 IO (io), F2 TMS (in)
part B pins: B14 IO (io), B15 IO (io), B16 IO (io), B17 IO (io), B18 IO (io), B19 IO (io), B20 IO (io), B21 IO (io), C4 IO (io), C5 IO (io), E20 IO (io), E21 IO (io), E22 IO (io), E23 IO (io), F1 IO (io), F3 IO (io), F4 IO (io), F20 IO (io), F21 IO (io), F22 IO (io), F23 IO (io), G1 IO (io), G2 IO (io), G3 IO (io), G4 IO (io), G20 IO (io), G21 IO (io), G22 IO (io), H1 IO (io), H2 IO (io), H3 IO (io), H4 IO (io), H21 IO (io), H22 IO (io), H23 IO (io), J2 IO (io), J3 IO (io), J4 IO (io), J20 IO (io), J21 IO (io), J22 IO (io), J23 IO (io), K1 IO (io), K2 IO (io), K3 IO (io), K4 IO (io), K20 IO (io), K21 IO (io), K22 IO (io), K23 IO (io), L1 IO (io), L2 IO (io), L3 IO (io), L21 IO (io), L22 IO (io), M1 IO (io), M2 IO (io), M3 IO (io), M21 IO (io), M22 IO (io), N1 IO (io), N2 IO (io), N3 IO (io), N4 IO (io), N21 IO (io), N22 IO (io), N23 IO (io), P1 IO (io), P2 IO (io), P3 IO (io), P4 IO (io), P20 IO (io), P21 IO (io), P22 IO (io), P23 IO (io), R1 IO (io), R2 IO (io), R3 IO (io), R4 IO (io), R20 IO (io), R21 IO (io), R22 IO (io), R23 IO (io), T1 IO (io), T2 IO (io), T3 IO (io), T4 IO (io), T20 IO (io), T21 IO (io), T22 IO (io), T23 IO (io), U1 IO (io), U2 IO (io), U4 IO (io), U20 IO (io), U22 IO (io), U23 IO (io), V2 IO (io), V3 IO (io), V4 IO (io), V20 IO (io), V21 IO (io), V22 IO (io), V23 IO (io), W1 IO (io), W2 IO (io), W3 IO (io), W4 IO (io), W20 IO (io), W21 IO (io), W22 IO (io), Y2 IO (io), Y3 IO (io), Y5 IO (io), Y6 IO (io), Y7 IO (io), Y8 IO (io), Y9 IO (io), Y10 IO (io), Y11 IO (io), Y14 IO (io), Y15 IO (io), Y16 IO (io), Y17 IO (io), Y18 IO (io), Y19 IO (io), Y21 IO (io), Y22 IO (io), Y23 IO (io)
part C pins: A1 GND (power), A2 GND (power), A3 VCCI (power), A4 NC, A7 VCCI (power), A8 NC, A21 NC, A22 VCCI (power), A23 GND (power), AA1 VCCI (power), AA3 GND (power), AA21 VCCI (power), AA23 VCCI (power), AB2 GND (power), AB22 GND (power), AC1 GND (power), AC2 VCCI (power), AC3 NC, AC9 VCCI (power), AC15 NC, AC21 NC, AC22 VCCI (power), AC23 GND (power), B1 VCCI (power), B2 GND (power), B22 GND (power), B23 VCCI (power), C1 NC, C3 GND (power), C21 VCCI (power), C22 GND (power), C23 NC, D11 VCCA (power), D12 VCCR (power), E1 VCCI (power), G23 GND (power), H20 VCCA (power), J1 NC, K10 GND (power), K11 GND (power), K12 GND (power), K13 GND (power), K14 GND (power), L4 VCCR (power), L10 GND (power), L11 GND (power), L12 GND (power), L13 GND (power), L14 GND (power), L20 VCCR (power), L23 NC, M4 VCCA (power), M10 GND (power), M11 GND (power), M12 GND (power), M13 GND (power), M14 GND (power), M20 VCCA (power), M23 VCCI (power), N10 GND (power), N11 GND (power), N12 GND (power), N13 GND (power), N14 GND (power), N20 NC, P10 GND (power), P11 GND (power), P12 GND (power), P13 GND (power), P14 GND (power), U3 VCCA (power), U21 VCCA (power), V1 VCCI (power), W23 NC, Y1 NC, Y4 GND (power), Y12 VCCA (power), Y13 VCCR (power), Y20 GND (power)

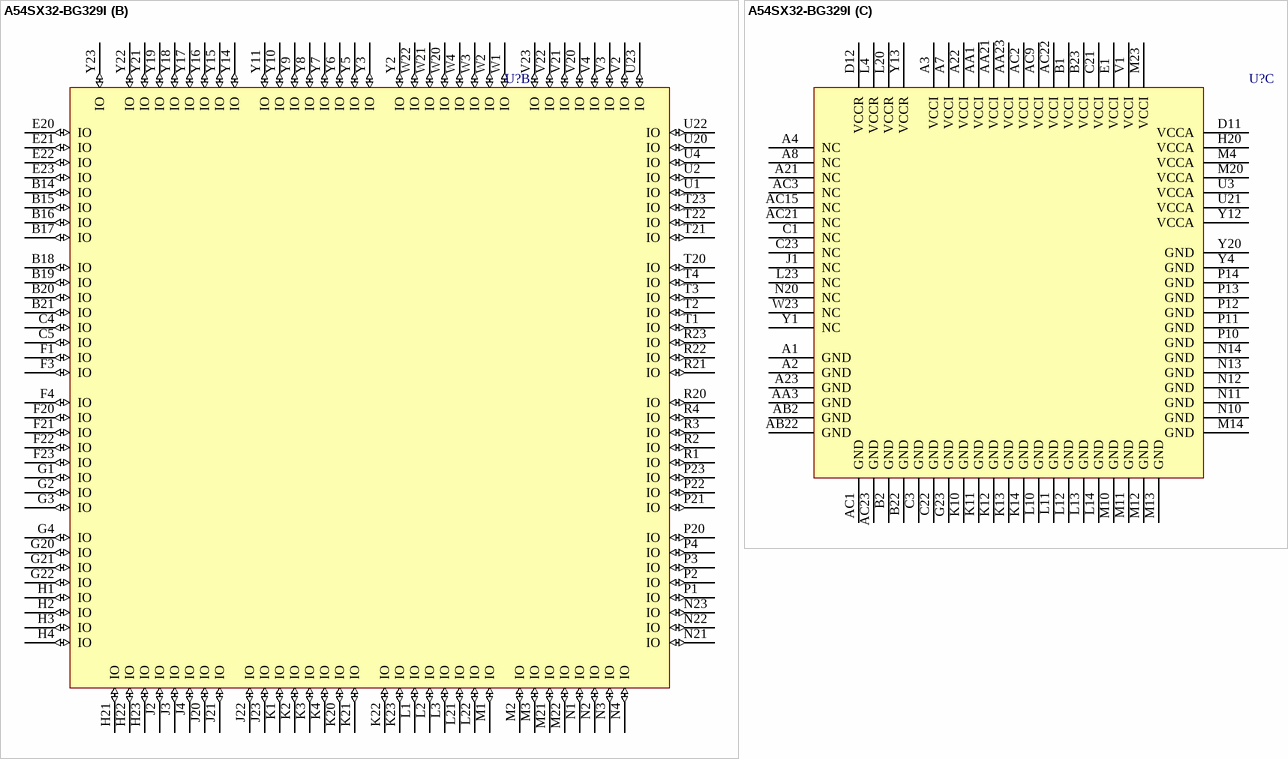
[diagram p124: symbol A54SX32-BG329I]

## A54SX32-BG329I
designator U?
54SX32 FPGA, 249 User IOs, 329-Pin PBGA, Speed Grade 1, Industrial Grade; Note: Unused I/O Pins are automatically tristated by the Designer Series software.; Published: 21-May-2003; LatestRevisionDate: 13-Apr-2006; LatestRevisionNote: IPC-7351 Footprint Added.; DatasheetVersion: ver3.1, Jun-2003; PackageVersion: v9.2, Apr-2006; PackageReference: BG329; Publisher: Altium Limited; PackageDescription: 329-Ball Plastic Ball Grid Array (BG329); Code_JEDEC: MS-034-BAN-2; ComponentLink1Description: Manufacturer Link; ComponentLink1URL: http://www.actel.com/products/sxa/index.html; ComponentLink2Description: Datasheet; ComponentLink2URL: http://www.actel.com/documents/A54SXDS.pdf
footprint BG329 (BGA, 329-Leads, Body 31x31mm, Pitch 1.27mm)
3D model A54SX32-BG329 (329-Ball Plastic Ball Grid Array (BG329))
part A pins: A5 IO (io), A6 IO (io), A9 IO (io), A10 IO (io), A11 IO (io), A12 IO (io), A13 CLKB (in), A14 IO (io), A15 IO (io), A16 IO (io), A17 IO (io), A18 IO (io), A19 IO (io), A20 IO (io), AA2 IO (io), AA4 IO (io), AA5 IO (io), AA6 IO (io), AA7 IO (io), AA8 IO (io), AA9 IO (io), AA10 IO (io), AA11 IO (io), AA12 IO (io), AA13 IO (io), AA14 IO (io), AA15 IO (io), AA16 IO (io), AA17 IO (io), AA18 IO (io), AA19 IO (io), AA20 TDO/IO (io), AA22 IO (io), AB1 IO (io), AB3 IO (io), AB4 IO (io), AB5 IO (io), AB6 IO (io), AB7 IO (io), AB8 IO (io), AB9 IO (io), AB10 IO (io), AB11 PRB/IO (io), AB12 IO (io), AB13 HCLK (in), AB14 IO (io), AB15 IO (io), AB16 IO (io), AB17 IO (io), AB18 IO (io), AB19 IO (io), AB20 IO (io), AB21 IO (io), AB23 IO (io), AC4 IO (io), AC5 IO (io), AC6 IO (io), AC7 IO (io), AC8 IO (io), AC10 IO (io), AC11 IO (io), AC12 IO (io), AC13 IO (io), AC14 IO (io), AC16 IO (io), AC17 IO (io), AC18 IO (io), AC19 IO (io), AC20 IO (io), B3 IO (io), B4 IO (io), B5 IO (io), B6 IO (io), B7 IO (io), B8 IO (io), B9 IO (io), B10 IO (io), B11 IO (io), B12 PRA/IO (io), B13 CLKA (in), C2 TDI/IO (io), C6 IO (io), C7 IO (io), C8 IO (io), C9 IO (io), C10 IO (io), C11 IO (io), C12 IO (io), C13 IO (io), C14 IO (io), C15 IO (io), C16 IO (io), C17 IO (io), C18 IO (io), C19 IO (io), C20 IO (io), D1 IO (io), D2 IO (io), D3 IO (io), D4 TCK/IO (io), D5 IO (io), D6 IO (io), D7 IO (io), D8 IO (io), D9 IO (io), D10 IO (io), D13 IO (io), D14 IO (io), D15 IO (io), D16 IO (io), D17 IO (io), D18 IO (io), D19 IO (io), D20 IO (io), D21 IO (io), D22 IO (io), D23 IO (io), E2 IO (io), E3 IO (io), E4 IO (io), F2 TMS (in)
part B pins: B14 IO (io), B15 IO (io), B16 IO (io), B17 IO (io), B18 IO (io), B19 IO (io), B20 IO (io), B21 IO (io), C4 IO (io), C5 IO (io), E20 IO (io), E21 IO (io), E22 IO (io), E23 IO (io), F1 IO (io), F3 IO (io), F4 IO (io), F20 IO (io), F21 IO (io), F22 IO (io), F23 IO (io), G1 IO (io), G2 IO (io), G3 IO (io), G4 IO (io), G20 IO (io), G21 IO (io), G22 IO (io), H1 IO (io), H2 IO (io), H3 IO (io), H4 IO (io), H21 IO (io), H22 IO (io), H23 IO (io), J2 IO (io), J3 IO (io), J4 IO (io), J20 IO (io), J21 IO (io), J22 IO (io), J23 IO (io), K1 IO (io), K2 IO (io), K3 IO (io), K4 IO (io), K20 IO (io), K21 IO (io), K22 IO (io), K23 IO (io), L1 IO (io), L2 IO (io), L3 IO (io), L21 IO (io), L22 IO (io), M1 IO (io), M2 IO (io), M3 IO (io), M21 IO (io), M22 IO (io), N1 IO (io), N2 IO (io), N3 IO (io), N4 IO (io), N21 IO (io), N22 IO (io), N23 IO (io), P1 IO (io), P2 IO (io), P3 IO (io), P4 IO (io), P20 IO (io), P21 IO (io), P22 IO (io), P23 IO (io), R1 IO (io), R2 IO (io), R3 IO (io), R4 IO (io), R20 IO (io), R21 IO (io), R22 IO (io), R23 IO (io), T1 IO (io), T2 IO (io), T3 IO (io), T4 IO (io), T20 IO (io), T21 IO (io), T22 IO (io), T23 IO (io), U1 IO (io), U2 IO (io), U4 IO (io), U20 IO (io), U22 IO (io), U23 IO (io), V2 IO (io), V3 IO (io), V4 IO (io), V20 IO (io), V21 IO (io), V22 IO (io), V23 IO (io), W1 IO (io), W2 IO (io), W3 IO (io), W4 IO (io), W20 IO (io), W21 IO (io), W22 IO (io), Y2 IO (io), Y3 IO (io), Y5 IO (io), Y6 IO (io), Y7 IO (io), Y8 IO (io), Y9 IO (io), Y10 IO (io), Y11 IO (io), Y14 IO (io), Y15 IO (io), Y16 IO (io), Y17 IO (io), Y18 IO (io), Y19 IO (io), Y21 IO (io), Y22 IO (io), Y23 IO (io)
part C pins: A1 GND (power), A2 GND (power), A3 VCCI (power), A4 NC, A7 VCCI (power), A8 NC, A21 NC, A22 VCCI (power), A23 GND (power), AA1 VCCI (power), AA3 GND (power), AA21 VCCI (power), AA23 VCCI (power), AB2 GND (power), AB22 GND (power), AC1 GND (power), AC2 VCCI (power), AC3 NC, AC9 VCCI (power), AC15 NC, AC21 NC, AC22 VCCI (power), AC23 GND (power), B1 VCCI (power), B2 GND (power), B22 GND (power), B23 VCCI (power), C1 NC, C3 GND (power), C21 VCCI (power), C22 GND (power), C23 NC, D11 VCCA (power), D12 VCCR (power), E1 VCCI (power), G23 GND (power), H20 VCCA (power), J1 NC, K10 GND (power), K11 GND (power), K12 GND (power), K13 GND (power), K14 GND (power), L4 VCCR (power), L10 GND (power), L11 GND (power), L12 GND (power), L13 GND (power), L14 GND (power), L20 VCCR (power), L23 NC, M4 VCCA (power), M10 GND (power), M11 GND (power), M12 GND (power), M13 GND (power), M14 GND (power), M20 VCCA (power), M23 VCCI (power), N10 GND (power), N11 GND (power), N12 GND (power), N13 GND (power), N14 GND (power), N20 NC, P10 GND (power), P11 GND (power), P12 GND (power), P13 GND (power), P14 GND (power), U3 VCCA (power), U21 VCCA (power), V1 VCCI (power), W23 NC, Y1 NC, Y4 GND (power), Y12 VCCA (power), Y13 VCCR (power), Y20 GND (power)

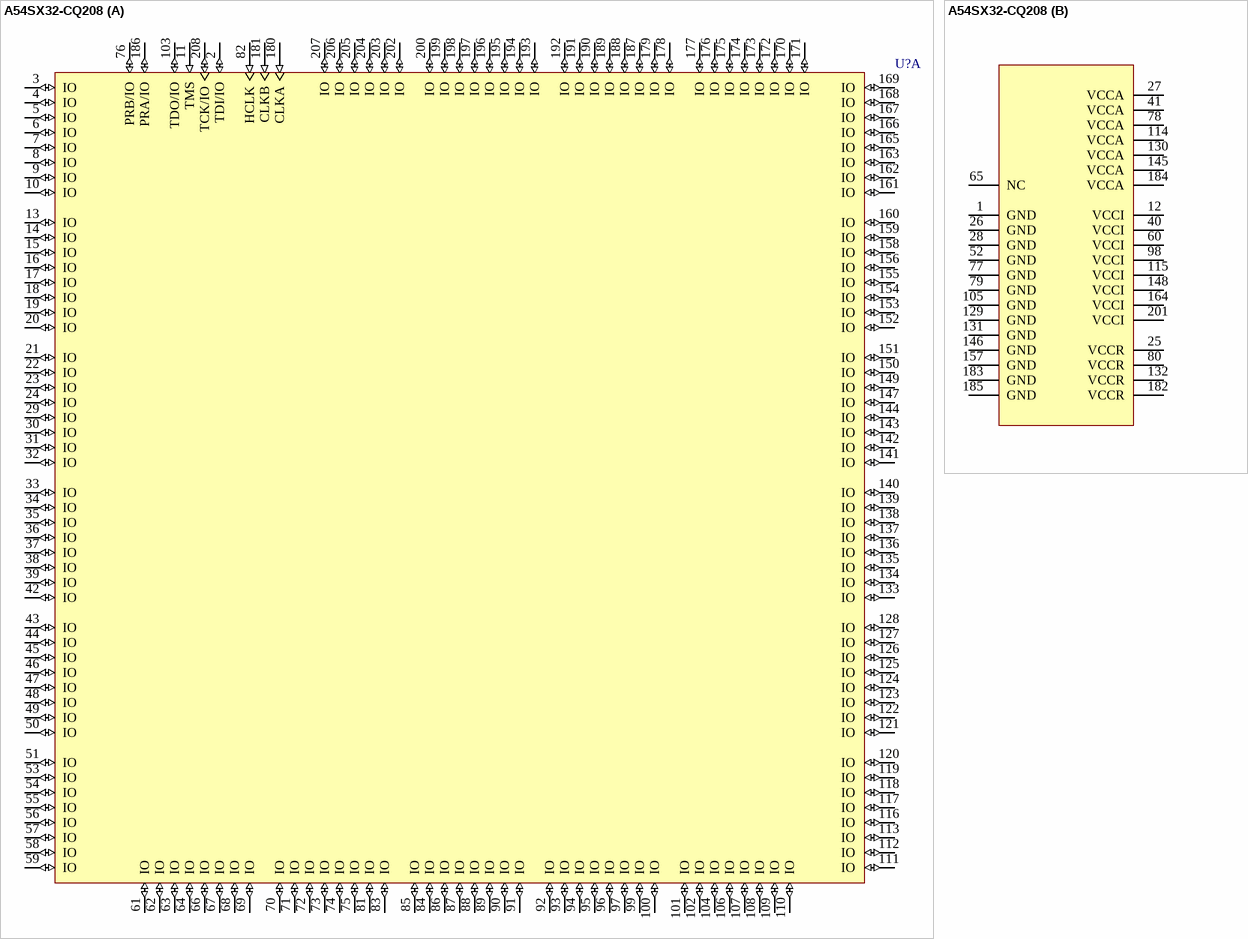
[diagram p125: symbol A54SX32-CQ208]

## A54SX32-CQ208
designator U?
A54SX32 RadTolerant FPGA, 174 User IOs, 208-Pin CQFP, Standard Speed Grade, Commecial Grade; Published: 17-Sep-2003; LatestRevisionDate: 13-Apr-2006; LatestRevisionNote: IPC-7351 Footprint Added.; DatasheetVersion: ver2.1, Mar-2005; PackageVersion: v9.2, Apr-2006; PackageReference: CQ208; Publisher: Altium Limited; PackageDescription: 208-Pin Ceramic Quad Flat Pack (CQFP); ComponentLink1Description: Manufacturer Link; ComponentLink1URL: http://www.actel.com/products/aero/index.html; ComponentLink2Description: Datasheet; ComponentLink2URL: http://www.actel.com/documents/RTSXDS.pdf
footprint CQ208_N (CQFP, 208-Leads, Body 29x29mm; Pitch 0.5mm, Gullwing Leadform, IPC Medium Density)
footprint CQ208_L (CQFP, 208-Leads, Body 29x29mm; Pitch 0.5mm, Gullwing Leadform, IPC High Density)
footprint CQ208_M (CQFP, 208-Leads, Body 29x29mm; Pitch 0.5mm, Gullwing Leadform, IPC Low Density)
3D model A54SX32-CQ208 (208-Pin Ceramic Quad Flat Pack (CQFP))
part A pins: 2 TDI/IO (io), 3 IO (io), 4 IO (io), 5 IO (io), 6 IO (io), 7 IO (io), 8 IO (io), 9 IO (io), 10 IO (io), 11 TMS (in), 13 IO (io), 14 IO (io), 15 IO (io), 16 IO (io), 17 IO (io), 18 IO (io), 19 IO (io), 20 IO (io), 21 IO (io), 22 IO (io), 23 IO (io), 24 IO (io), 29 IO (io), 30 IO (io), 31 IO (io), 32 IO (io), 33 IO (io), 34 IO (io), 35 IO (io), 36 IO (io), 37 IO (io), 38 IO (io), 39 IO (io), 42 IO (io), 43 IO (io), 44 IO (io), 45 IO (io), 46 IO (io), 47 IO (io), 48 IO (io), 49 IO (io), 50 IO (io), 51 IO (io), 53 IO (io), 54 IO (io), 55 IO (io), 56 IO (io), 57 IO (io), 58 IO (io), 59 IO (io), 61 IO (io), 62 IO (io), 63 IO (io), 64 IO (io), 66 IO (io), 67 IO (io), 68 IO (io), 69 IO (io), 70 IO (io), 71 IO (io), 72 IO (io), 73 IO (io), 74 IO (io), 75 IO (io), 76 PRB/IO (io), 81 IO (io), 82 HCLK (in), 83 IO (io), 84 IO (io), 85 IO (io), 86 IO (io), 87 IO (io), 88 IO (io), 89 IO (io), 90 IO (io), 91 IO (io), 92 IO (io), 93 IO (io), 94 IO (io), 95 IO (io), 96 IO (io), 97 IO (io), 99 IO (io), 100 IO (io), 101 IO (io), 102 IO (io), 103 TDO/IO (io), 104 IO (io), 106 IO (io), 107 IO (io), 108 IO (io), 109 IO (io), 110 IO (io), 111 IO (io), 112 IO (io), 113 IO (io), 116 IO (io), 117 IO (io), 118 IO (io), 119 IO (io), 120 IO (io), 121 IO (io), 122 IO (io), 123 IO (io), 124 IO (io), 125 IO (io), 126 IO (io), 127 IO (io), 128 IO (io), 133 IO (io), 134 IO (io), 135 IO (io), 136 IO (io), 137 IO (io), 138 IO (io), 139 IO (io), 140 IO (io), 141 IO (io), 142 IO (io), 143 IO (io), 144 IO (io), 147 IO (io), 149 IO (io), 150 IO (io), 151 IO (io), 152 IO (io), 153 IO (io), 154 IO (io), 155 IO (io), 156 IO (io), 158 IO (io), 159 IO (io), 160 IO (io), 161 IO (io), 162 IO (io), 163 IO (io), 165 IO (io), 166 IO (io), 167 IO (io), 168 IO (io), 169 IO (io), 170 IO (io), 171 IO (io), 172 IO (io), 173 IO (io), 174 IO (io), 175 IO (io), 176 IO (io), 177 IO (io), 178 IO (io), 179 IO (io), 180 CLKA (in), 181 CLKB (in), 186 PRA/IO (io), 187 IO (io), 188 IO (io), 189 IO (io), 190 IO (io), 191 IO (io), 192 IO (io), 193 IO (io), 194 IO (io), 195 IO (io), 196 IO (io), 197 IO (io), 198 IO (io), 199 IO (io), 200 IO (io), 202 IO (io), 203 IO (io), 204 IO (io), 205 IO (io), 206 IO (io), 207 IO (io), 208 TCK/IO (io)
part B pins: 1 GND (power), 12 VCCI (power), 25 VCCR (power), 26 GND (power), 27 VCCA (power), 28 GND (power), 40 VCCI (power), 41 VCCA (power), 52 GND (power), 60 VCCI (power), 65 NC, 77 GND (power), 78 VCCA (power), 79 GND (power), 80 VCCR (power), 98 VCCI (power), 105 GND (power), 114 VCCA (power), 115 VCCI (power), 129 GND (power), 130 VCCA (power), 131 GND (power), 132 VCCR (power), 145 VCCA (power), 146 GND (power), 148 VCCI (power), 157 GND (power), 164 VCCI (power), 182 VCCR (power), 183 GND (power), 184 VCCA (power), 185 GND (power), 201 VCCI (power)

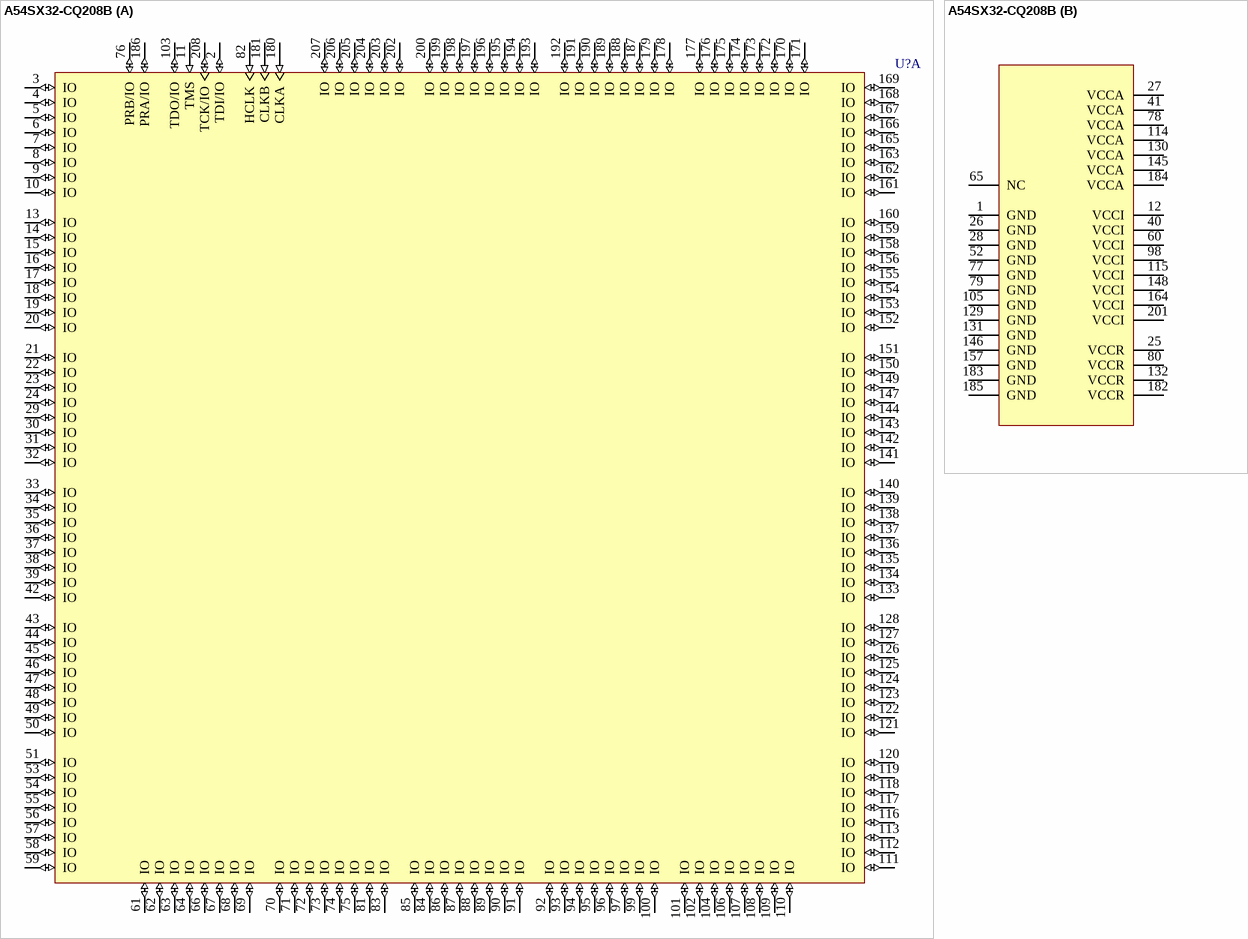
[diagram p126: symbol A54SX32-CQ208B]

## A54SX32-CQ208B
designator U?
A54SX32 RadTolerant FPGA, 174 User IOs, 208-Pin CQFP, Standard Speed Grade, MIL-STD-883; Published: 17-Sep-2003; LatestRevisionDate: 13-Apr-2006; LatestRevisionNote: IPC-7351 Footprint Added.; DatasheetVersion: ver2.1, Mar-2005; PackageVersion: v9.2, Apr-2006; PackageReference: CQ208; Publisher: Altium Limited; PackageDescription: 208-Pin Ceramic Quad Flat Pack (CQFP); ComponentLink1Description: Manufacturer Link; ComponentLink1URL: http://www.actel.com/products/aero/index.html; ComponentLink2Description: Datasheet; ComponentLink2URL: http://www.actel.com/documents/RTSXDS.pdf
footprint CQ208_N (CQFP, 208-Leads, Body 29x29mm; Pitch 0.5mm, Gullwing Leadform, IPC Medium Density)
footprint CQ208_L (CQFP, 208-Leads, Body 29x29mm; Pitch 0.5mm, Gullwing Leadform, IPC High Density)
footprint CQ208_M (CQFP, 208-Leads, Body 29x29mm; Pitch 0.5mm, Gullwing Leadform, IPC Low Density)
3D model A54SX32-CQ208 (208-Pin Ceramic Quad Flat Pack (CQFP))
part A pins: 2 TDI/IO (io), 3 IO (io), 4 IO (io), 5 IO (io), 6 IO (io), 7 IO (io), 8 IO (io), 9 IO (io), 10 IO (io), 11 TMS (in), 13 IO (io), 14 IO (io), 15 IO (io), 16 IO (io), 17 IO (io), 18 IO (io), 19 IO (io), 20 IO (io), 21 IO (io), 22 IO (io), 23 IO (io), 24 IO (io), 29 IO (io), 30 IO (io), 31 IO (io), 32 IO (io), 33 IO (io), 34 IO (io), 35 IO (io), 36 IO (io), 37 IO (io), 38 IO (io), 39 IO (io), 42 IO (io), 43 IO (io), 44 IO (io), 45 IO (io), 46 IO (io), 47 IO (io), 48 IO (io), 49 IO (io), 50 IO (io), 51 IO (io), 53 IO (io), 54 IO (io), 55 IO (io), 56 IO (io), 57 IO (io), 58 IO (io), 59 IO (io), 61 IO (io), 62 IO (io), 63 IO (io), 64 IO (io), 66 IO (io), 67 IO (io), 68 IO (io), 69 IO (io), 70 IO (io), 71 IO (io), 72 IO (io), 73 IO (io), 74 IO (io), 75 IO (io), 76 PRB/IO (io), 81 IO (io), 82 HCLK (in), 83 IO (io), 84 IO (io), 85 IO (io), 86 IO (io), 87 IO (io), 88 IO (io), 89 IO (io), 90 IO (io), 91 IO (io), 92 IO (io), 93 IO (io), 94 IO (io), 95 IO (io), 96 IO (io), 97 IO (io), 99 IO (io), 100 IO (io), 101 IO (io), 102 IO (io), 103 TDO/IO (io), 104 IO (io), 106 IO (io), 107 IO (io), 108 IO (io), 109 IO (io), 110 IO (io), 111 IO (io), 112 IO (io), 113 IO (io), 116 IO (io), 117 IO (io), 118 IO (io), 119 IO (io), 120 IO (io), 121 IO (io), 122 IO (io), 123 IO (io), 124 IO (io), 125 IO (io), 126 IO (io), 127 IO (io), 128 IO (io), 133 IO (io), 134 IO (io), 135 IO (io), 136 IO (io), 137 IO (io), 138 IO (io), 139 IO (io), 140 IO (io), 141 IO (io), 142 IO (io), 143 IO (io), 144 IO (io), 147 IO (io), 149 IO (io), 150 IO (io), 151 IO (io), 152 IO (io), 153 IO (io), 154 IO (io), 155 IO (io), 156 IO (io), 158 IO (io), 159 IO (io), 160 IO (io), 161 IO (io), 162 IO (io), 163 IO (io), 165 IO (io), 166 IO (io), 167 IO (io), 168 IO (io), 169 IO (io), 170 IO (io), 171 IO (io), 172 IO (io), 173 IO (io), 174 IO (io), 175 IO (io), 176 IO (io), 177 IO (io), 178 IO (io), 179 IO (io), 180 CLKA (in), 181 CLKB (in), 186 PRA/IO (io), 187 IO (io), 188 IO (io), 189 IO (io), 190 IO (io), 191 IO (io), 192 IO (io), 193 IO (io), 194 IO (io), 195 IO (io), 196 IO (io), 197 IO (io), 198 IO (io), 199 IO (io), 200 IO (io), 202 IO (io), 203 IO (io), 204 IO (io), 205 IO (io), 206 IO (io), 207 IO (io), 208 TCK/IO (io)
part B pins: 1 GND (power), 12 VCCI (power), 25 VCCR (power), 26 GND (power), 27 VCCA (power), 28 GND (power), 40 VCCI (power), 41 VCCA (power), 52 GND (power), 60 VCCI (power), 65 NC, 77 GND (power), 78 VCCA (power), 79 GND (power), 80 VCCR (power), 98 VCCI (power), 105 GND (power), 114 VCCA (power), 115 VCCI (power), 129 GND (power), 130 VCCA (power), 131 GND (power), 132 VCCR (power), 145 VCCA (power), 146 GND (power), 148 VCCI (power), 157 GND (power), 164 VCCI (power), 182 VCCR (power), 183 GND (power), 184 VCCA (power), 185 GND (power), 201 VCCI (power)

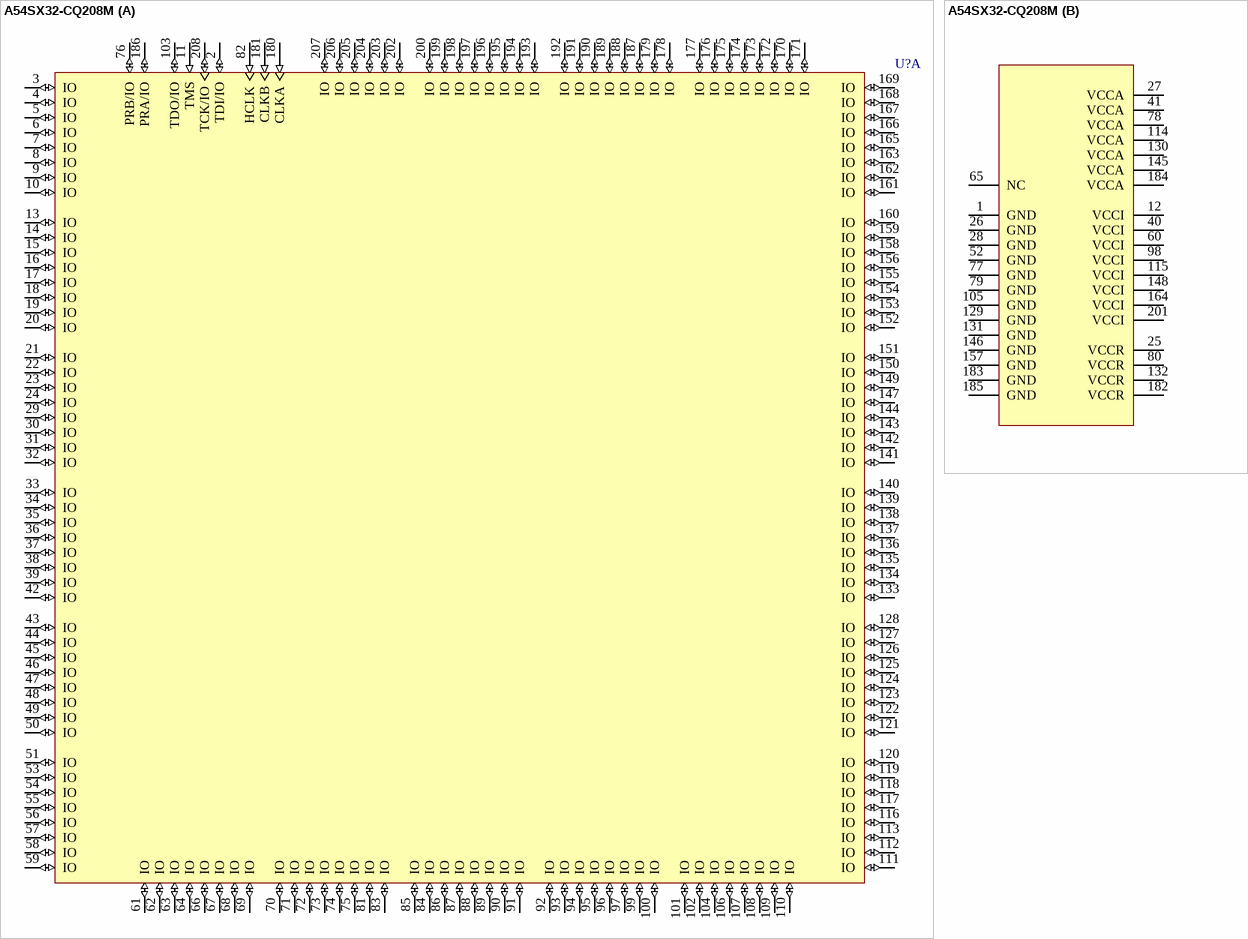
[diagram p127: symbol A54SX32-CQ208M]

## A54SX32-CQ208M
designator U?
A54SX32 RadTolerant FPGA, 174 User IOs, 208-Pin CQFP, Standard Speed Grade, Military Grade; Published: 17-Sep-2003; LatestRevisionDate: 13-Apr-2006; LatestRevisionNote: IPC-7351 Footprint Added.; DatasheetVersion: ver2.1, Mar-2005; PackageVersion: v9.2, Apr-2006; PackageReference: CQ208; Publisher: Altium Limited; PackageDescription: 208-Pin Ceramic Quad Flat Pack (CQFP); ComponentLink1Description: Manufacturer Link; ComponentLink1URL: http://www.actel.com/products/aero/index.html; ComponentLink2Description: Datasheet; ComponentLink2URL: http://www.actel.com/documents/RTSXDS.pdf
footprint CQ208_N (CQFP, 208-Leads, Body 29x29mm; Pitch 0.5mm, Gullwing Leadform, IPC Medium Density)
footprint CQ208_L (CQFP, 208-Leads, Body 29x29mm; Pitch 0.5mm, Gullwing Leadform, IPC High Density)
footprint CQ208_M (CQFP, 208-Leads, Body 29x29mm; Pitch 0.5mm, Gullwing Leadform, IPC Low Density)
3D model A54SX32-CQ208 (208-Pin Ceramic Quad Flat Pack (CQFP))
part A pins: 2 TDI/IO (io), 3 IO (io), 4 IO (io), 5 IO (io), 6 IO (io), 7 IO (io), 8 IO (io), 9 IO (io), 10 IO (io), 11 TMS (in), 13 IO (io), 14 IO (io), 15 IO (io), 16 IO (io), 17 IO (io), 18 IO (io), 19 IO (io), 20 IO (io), 21 IO (io), 22 IO (io), 23 IO (io), 24 IO (io), 29 IO (io), 30 IO (io), 31 IO (io), 32 IO (io), 33 IO (io), 34 IO (io), 35 IO (io), 36 IO (io), 37 IO (io), 38 IO (io), 39 IO (io), 42 IO (io), 43 IO (io), 44 IO (io), 45 IO (io), 46 IO (io), 47 IO (io), 48 IO (io), 49 IO (io), 50 IO (io), 51 IO (io), 53 IO (io), 54 IO (io), 55 IO (io), 56 IO (io), 57 IO (io), 58 IO (io), 59 IO (io), 61 IO (io), 62 IO (io), 63 IO (io), 64 IO (io), 66 IO (io), 67 IO (io), 68 IO (io), 69 IO (io), 70 IO (io), 71 IO (io), 72 IO (io), 73 IO (io), 74 IO (io), 75 IO (io), 76 PRB/IO (io), 81 IO (io), 82 HCLK (in), 83 IO (io), 84 IO (io), 85 IO (io), 86 IO (io), 87 IO (io), 88 IO (io), 89 IO (io), 90 IO (io), 91 IO (io), 92 IO (io), 93 IO (io), 94 IO (io), 95 IO (io), 96 IO (io), 97 IO (io), 99 IO (io), 100 IO (io), 101 IO (io), 102 IO (io), 103 TDO/IO (io), 104 IO (io), 106 IO (io), 107 IO (io), 108 IO (io), 109 IO (io), 110 IO (io), 111 IO (io), 112 IO (io), 113 IO (io), 116 IO (io), 117 IO (io), 118 IO (io), 119 IO (io), 120 IO (io), 121 IO (io), 122 IO (io), 123 IO (io), 124 IO (io), 125 IO (io), 126 IO (io), 127 IO (io), 128 IO (io), 133 IO (io), 134 IO (io), 135 IO (io), 136 IO (io), 137 IO (io), 138 IO (io), 139 IO (io), 140 IO (io), 141 IO (io), 142 IO (io), 143 IO (io), 144 IO (io), 147 IO (io), 149 IO (io), 150 IO (io), 151 IO (io), 152 IO (io), 153 IO (io), 154 IO (io), 155 IO (io), 156 IO (io), 158 IO (io), 159 IO (io), 160 IO (io), 161 IO (io), 162 IO (io), 163 IO (io), 165 IO (io), 166 IO (io), 167 IO (io), 168 IO (io), 169 IO (io), 170 IO (io), 171 IO (io), 172 IO (io), 173 IO (io), 174 IO (io), 175 IO (io), 176 IO (io), 177 IO (io), 178 IO (io), 179 IO (io), 180 CLKA (in), 181 CLKB (in), 186 PRA/IO (io), 187 IO (io), 188 IO (io), 189 IO (io), 190 IO (io), 191 IO (io), 192 IO (io), 193 IO (io), 194 IO (io), 195 IO (io), 196 IO (io), 197 IO (io), 198 IO (io), 199 IO (io), 200 IO (io), 202 IO (io), 203 IO (io), 204 IO (io), 205 IO (io), 206 IO (io), 207 IO (io), 208 TCK/IO (io)
part B pins: 1 GND (power), 12 VCCI (power), 25 VCCR (power), 26 GND (power), 27 VCCA (power), 28 GND (power), 40 VCCI (power), 41 VCCA (power), 52 GND (power), 60 VCCI (power), 65 NC, 77 GND (power), 78 VCCA (power), 79 GND (power), 80 VCCR (power), 98 VCCI (power), 105 GND (power), 114 VCCA (power), 115 VCCI (power), 129 GND (power), 130 VCCA (power), 131 GND (power), 132 VCCR (power), 145 VCCA (power), 146 GND (power), 148 VCCI (power), 157 GND (power), 164 VCCI (power), 182 VCCR (power), 183 GND (power), 184 VCCA (power), 185 GND (power), 201 VCCI (power)

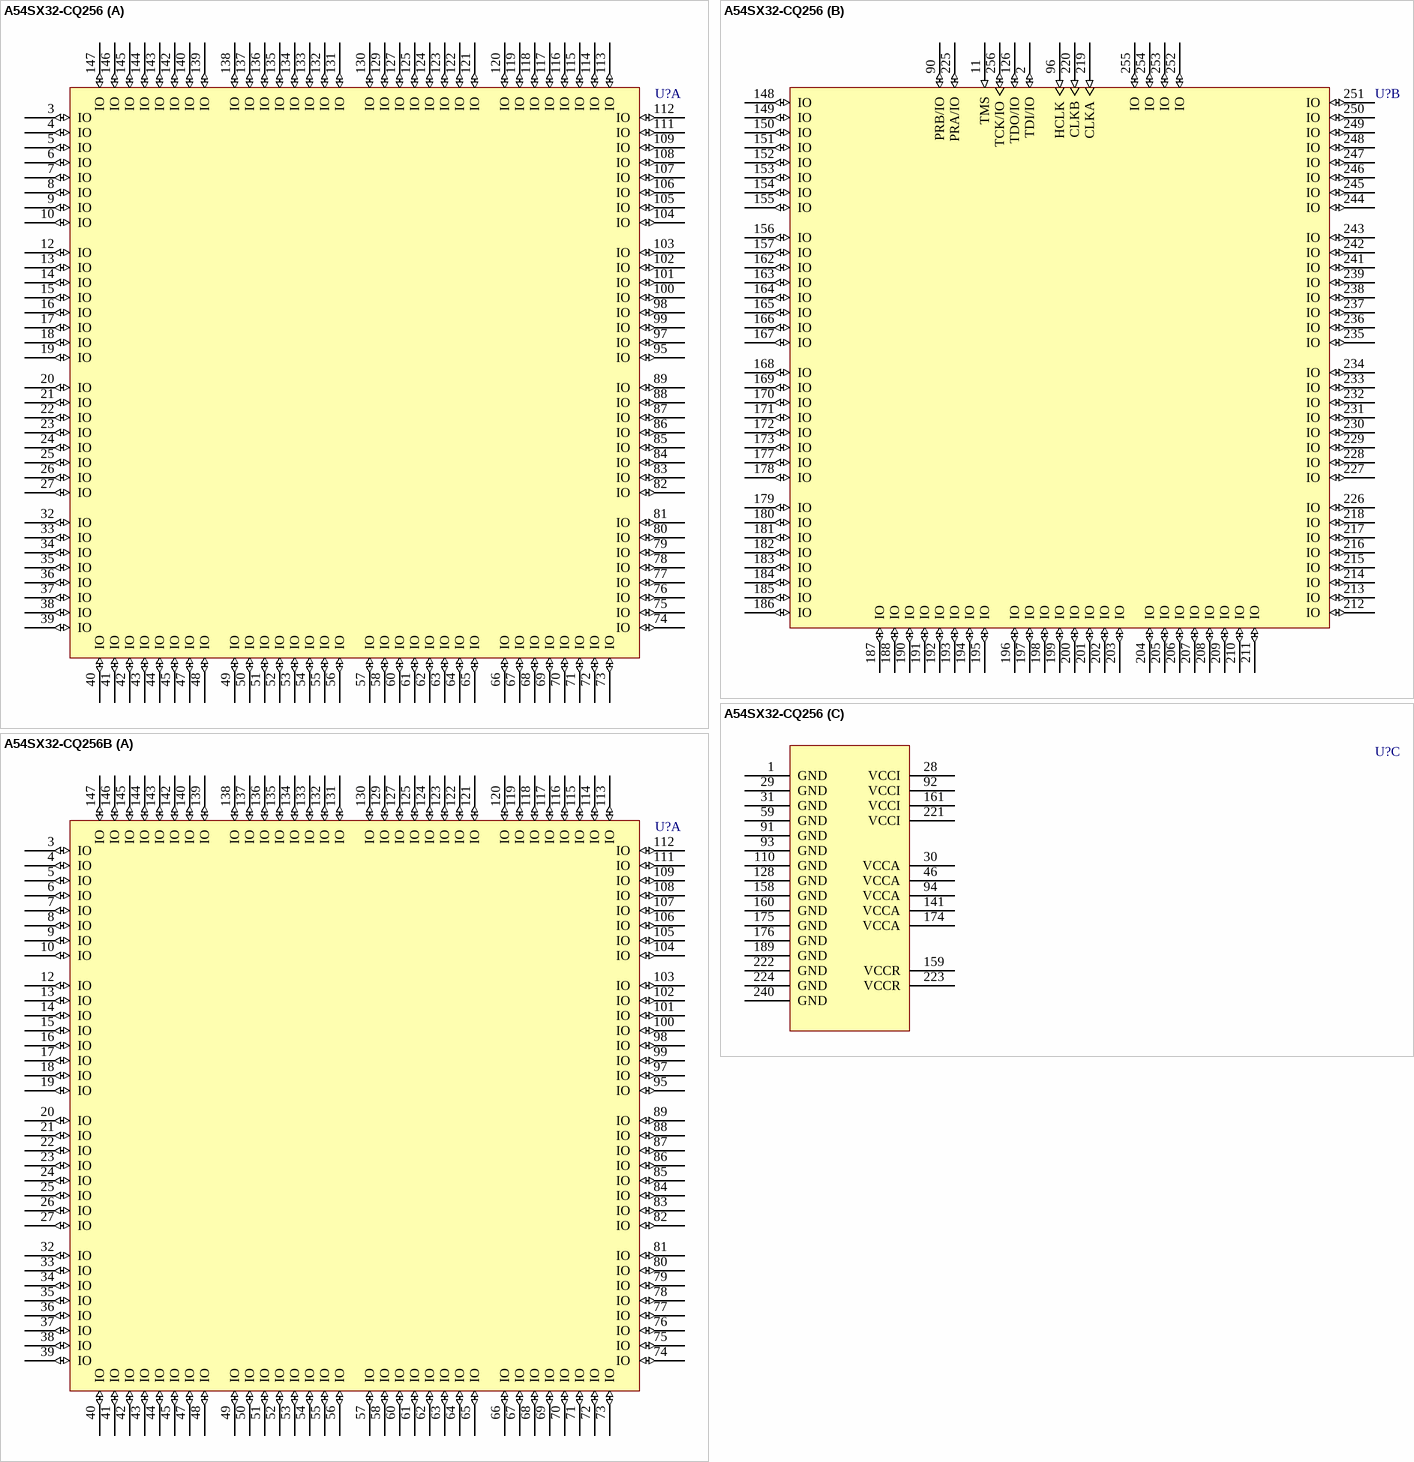
[diagram p128: symbols A54SX32-CQ256 to A54SX32-CQ256B]

## A54SX32-CQ256
designator U?
A54SX32 RadTolerant FPGA, 228 User IOs, 256-Pin CQFP, Standard Speed Grade, Commecial Grade; Published: 17-Sep-2003; LatestRevisionDate: 13-Apr-2006; LatestRevisionNote: IPC-7351 Footprint Added.; DatasheetVersion: ver2.1, Mar-2005; PackageVersion: v9.2, Apr-2006; PackageReference: CQ256; Publisher: Altium Limited; PackageDescription: 256-Pin Ceramic Quad Flat Pack (CQFP); Code_JEDEC: MO-134-AB; ComponentLink1Description: Manufacturer Link; ComponentLink1URL: http://www.actel.com/products/aero/index.html; ComponentLink2Description: Datasheet; ComponentLink2URL: http://www.actel.com/documents/RTSXDS.pdf
footprint CQ256_N (CQFP, 256-Leads, Body 36x36mm; Pitch 0.5mm, Gullwing Leadform, IPC Medium Density)
footprint CQ256_L (CQFP, 256-Leads, Body 36x36mm; Pitch 0.5mm, Gullwing Leadform, IPC High Density)
footprint CQ256_M (CQFP, 256-Leads, Body 36x36mm; Pitch 0.5mm, Gullwing Leadform, IPC Low Density)
3D model A54SX32-CQ256 (256-Pin Ceramic Quad Flat Pack (CQFP))
part A pins: 3 IO (io), 4 IO (io), 5 IO (io), 6 IO (io), 7 IO (io), 8 IO (io), 9 IO (io), 10 IO (io), 12 IO (io), 13 IO (io), 14 IO (io), 15 IO (io), 16 IO (io), 17 IO (io), 18 IO (io), 19 IO (io), 20 IO (io), 21 IO (io), 22 IO (io), 23 IO (io), 24 IO (io), 25 IO (io), 26 IO (io), 27 IO (io), 32 IO (io), 33 IO (io), 34 IO (io), 35 IO (io), 36 IO (io), 37 IO (io), 38 IO (io), 39 IO (io), 40 IO (io), 41 IO (io), 42 IO (io), 43 IO (io), 44 IO (io), 45 IO (io), 47 IO (io), 48 IO (io), 49 IO (io), 50 IO (io), 51 IO (io), 52 IO (io), 53 IO (io), 54 IO (io), 55 IO (io), 56 IO (io), 57 IO (io), 58 IO (io), 60 IO (io), 61 IO (io), 62 IO (io), 63 IO (io), 64 IO (io), 65 IO (io), 66 IO (io), 67 IO (io), 68 IO (io), 69 IO (io), 70 IO (io), 71 IO (io), 72 IO (io), 73 IO (io), 74 IO (io), 75 IO (io), 76 IO (io), 77 IO (io), 78 IO (io), 79 IO (io), 80 IO (io), 81 IO (io), 82 IO (io), 83 IO (io), 84 IO (io), 85 IO (io), 86 IO (io), 87 IO (io), 88 IO (io), 89 IO (io), 95 IO (io), 97 IO (io), 98 IO (io), 99 IO (io), 100 IO (io), 101 IO (io), 102 IO (io), 103 IO (io), 104 IO (io), 105 IO (io), 106 IO (io), 107 IO (io), 108 IO (io), 109 IO (io), 111 IO (io), 112 IO (io), 113 IO (io), 114 IO (io), 115 IO (io), 116 IO (io), 117 IO (io), 118 IO (io), 119 IO (io), 120 IO (io), 121 IO (io), 122 IO (io), 123 IO (io), 124 IO (io), 125 IO (io), 127 IO (io), 129 IO (io), 130 IO (io), 131 IO (io), 132 IO (io), 133 IO (io), 134 IO (io), 135 IO (io), 136 IO (io), 137 IO (io), 138 IO (io), 139 IO (io), 140 IO (io), 142 IO (io), 143 IO (io), 144 IO (io), 145 IO (io), 146 IO (io), 147 IO (io)
part B pins: 2 TDI/IO (io), 11 TMS (in), 90 PRB/IO (io), 96 HCLK (in), 126 TDO/IO (io), 148 IO (io), 149 IO (io), 150 IO (io), 151 IO (io), 152 IO (io), 153 IO (io), 154 IO (io), 155 IO (io), 156 IO (io), 157 IO (io), 162 IO (io), 163 IO (io), 164 IO (io), 165 IO (io), 166 IO (io), 167 IO (io), 168 IO (io), 169 IO (io), 170 IO (io), 171 IO (io), 172 IO (io), 173 IO (io), 177 IO (io), 178 IO (io), 179 IO (io), 180 IO (io), 181 IO (io), 182 IO (io), 183 IO (io), 184 IO (io), 185 IO (io), 186 IO (io), 187 IO (io), 188 IO (io), 190 IO (io), 191 IO (io), 192 IO (io), 193 IO (io), 194 IO (io), 195 IO (io), 196 IO (io), 197 IO (io), 198 IO (io), 199 IO (io), 200 IO (io), 201 IO (io), 202 IO (io), 203 IO (io), 204 IO (io), 205 IO (io), 206 IO (io), 207 IO (io), 208 IO (io), 209 IO (io), 210 IO (io), 211 IO (io), 212 IO (io), 213 IO (io), 214 IO (io), 215 IO (io), 216 IO (io), 217 IO (io), 218 IO (io), 219 CLKA (in), 220 CLKB (in), 225 PRA/IO (io), 226 IO (io), 227 IO (io), 228 IO (io), 229 IO (io), 230 IO (io), 231 IO (io), 232 IO (io), 233 IO (io), 234 IO (io), 235 IO (io), 236 IO (io), 237 IO (io), 238 IO (io), 239 IO (io), 241 IO (io), 242 IO (io), 243 IO (io), 244 IO (io), 245 IO (io), 246 IO (io), 247 IO (io), 248 IO (io), 249 IO (io), 250 IO (io), 251 IO (io), 252 IO (io), 253 IO (io), 254 IO (io), 255 IO (io), 256 TCK/IO (io)
part C pins: 1 GND (power), 28 VCCI (power), 29 GND (power), 30 VCCA (power), 31 GND (power), 46 VCCA (power), 59 GND (power), 91 GND (power), 92 VCCI (power), 93 GND (power), 94 VCCA (power), 110 GND (power), 128 GND (power), 141 VCCA (power), 158 GND (power), 159 VCCR (power), 160 GND (power), 161 VCCI (power), 174 VCCA (power), 175 GND (power), 176 GND (power), 189 GND (power), 221 VCCI (power), 222 GND (power), 223 VCCR (power), 224 GND (power), 240 GND (power)

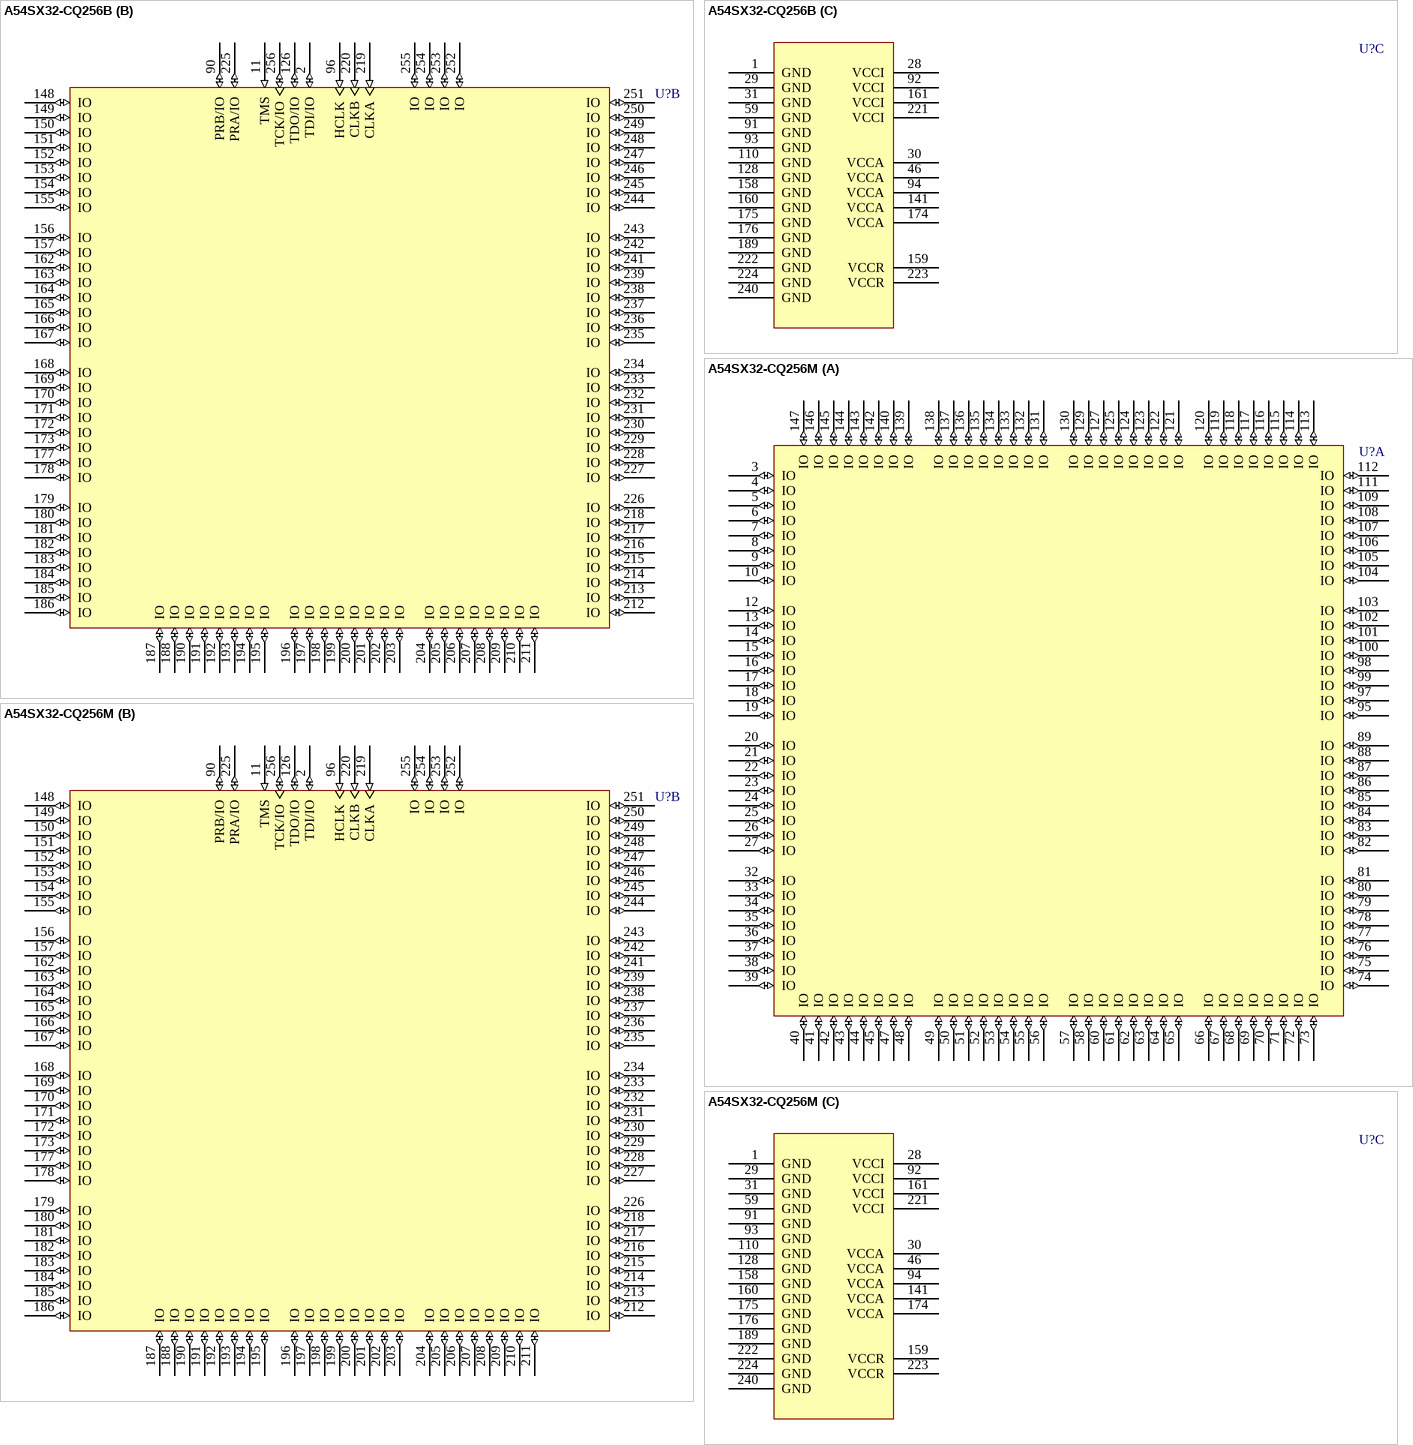
[diagram p129: symbols A54SX32-CQ256B to A54SX32-CQ256M]